# Altium schematic symbol library vga.SchLib: 197 symbols (part 2 of 3)

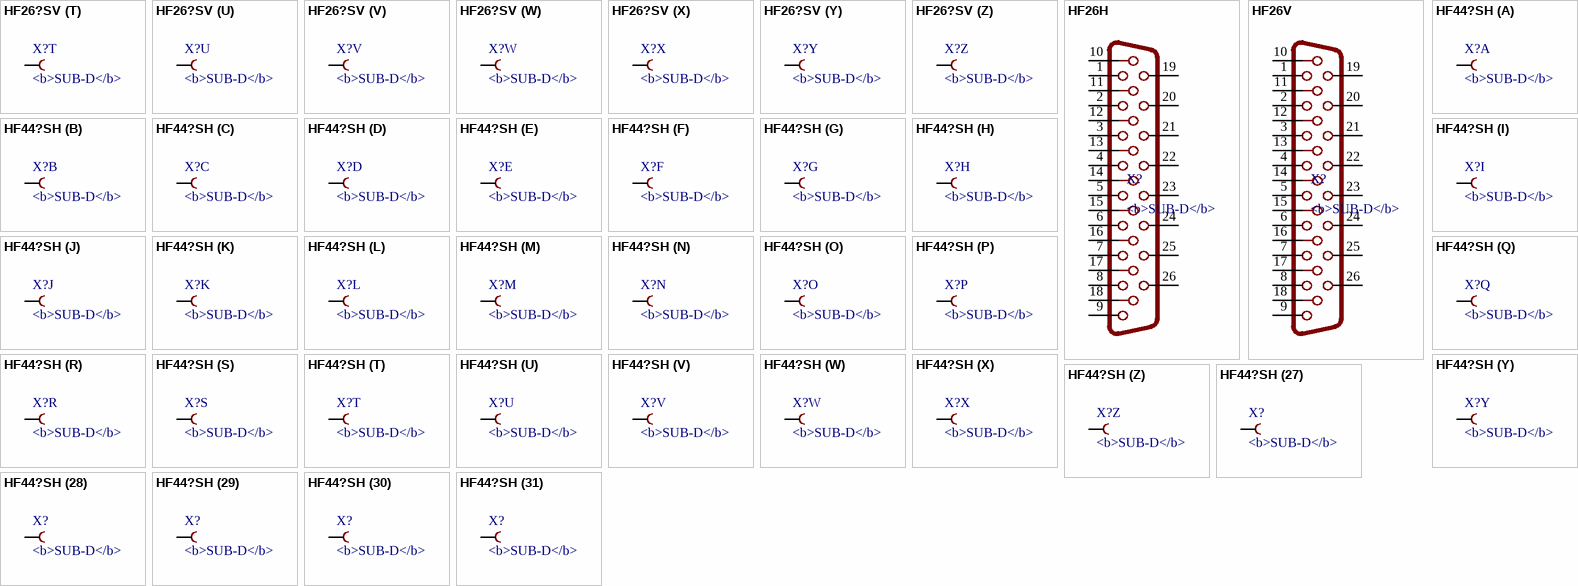
[diagram p23: symbols HF26?SV to HF44?SH]

## HF26?SV
designator X?, comment <b>SUB-D</b>
OC_FARNELL: unknown; OC_NEWARK: unknown
footprint HDF26V
part A pins: 1 F
part B pins: 2 F
part C pins: 3 F
part D pins: 4 F
part E pins: 5 F
part F pins: 6 F
part G pins: 7 F
part H pins: 8 F
part I pins: 9 F
part J pins: 10 F
part K pins: 11 F
part L pins: 12 F
part M pins: 13 F
part N pins: 14 F
part O pins: 15 F
part P pins: 16 F
part Q pins: 17 F
part R pins: 18 F
part S pins: 19 F
part T pins: 20 F
part U pins: 21 F
part V pins: 22 F
part W pins: 23 F
part X pins: 24 F
part Y pins: 25 F
part Z pins: 26 F

## HF26H
designator X?, comment <b>SUB-D</b>
OC_FARNELL: unknown; OC_NEWARK: unknown
footprint HDF26H
pins: 1, 2, 3, 4, 5, 6, 7, 8, 9, 10, 11, 12, 13, 14, 15, 16, 17, 18, 19, 20, 21, 22, 23, 24, 25, 26

## HF26V
designator X?, comment <b>SUB-D</b>
OC_FARNELL: unknown; OC_NEWARK: unknown
footprint HDF26V
pins: 1, 2, 3, 4, 5, 6, 7, 8, 9, 10, 11, 12, 13, 14, 15, 16, 17, 18, 19, 20, 21, 22, 23, 24, 25, 26

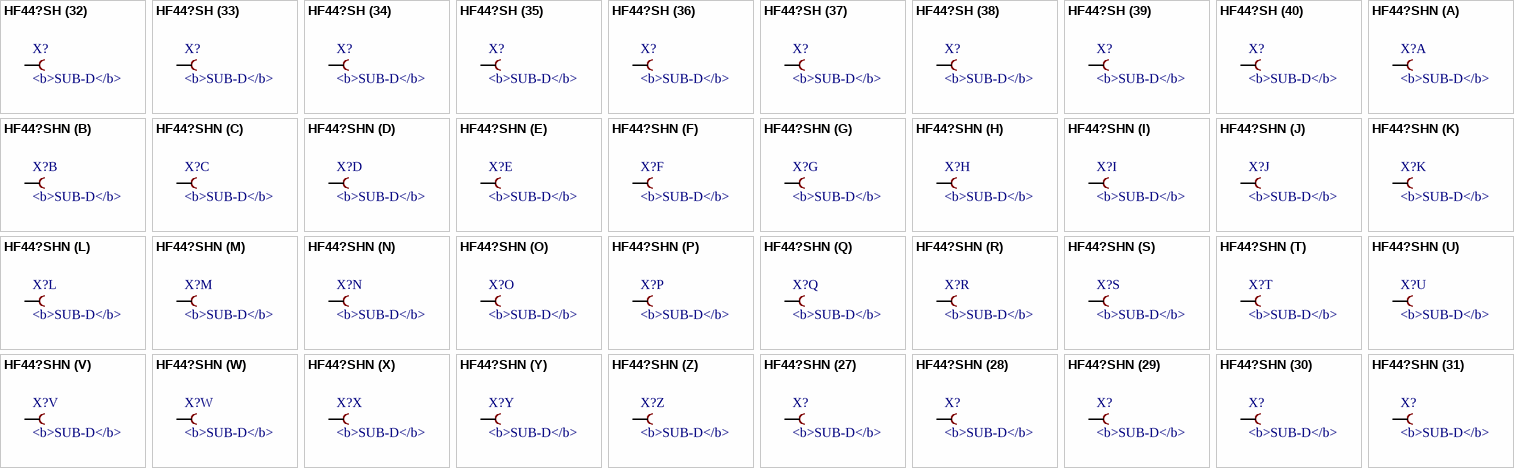
[diagram p24: symbols HF44?SH to HF44?SHN]

## HF44?SH
designator X?, comment <b>SUB-D</b>
OC_FARNELL: unknown; OC_NEWARK: unknown
footprint HDF44H
part A pins: 1 F
part B pins: 2 F
part C pins: 3 F
part D pins: 4 F
part E pins: 5 F
part F pins: 6 F
part G pins: 7 F
part H pins: 8 F
part I pins: 9 F
part J pins: 10 F
part K pins: 11 F
part L pins: 12 F
part M pins: 13 F
part N pins: 14 F
part O pins: 15 F
part P pins: 16 F
part Q pins: 17 F
part R pins: 18 F
part S pins: 19 F
part T pins: 20 F
part U pins: 21 F
part V pins: 22 F
part W pins: 23 F
part X pins: 24 F
part Y pins: 25 F
part Z pins: 26 F
part 27 pins: 27 F
part 28 pins: 28 F
part 29 pins: 29 F
part 30 pins: 30 F
part 31 pins: 31 F
part 32 pins: 32 F
part 33 pins: 33 F
part 34 pins: 34 F
part 35 pins: 35 F
part 36 pins: 36 F
part 37 pins: 37 F
part 38 pins: 38 F
part 39 pins: 39 F
part 40 pins: 40 F
part 41 pins: 41 F
part 42 pins: 42 F
part 43 pins: 43 F
part 44 pins: 44 F

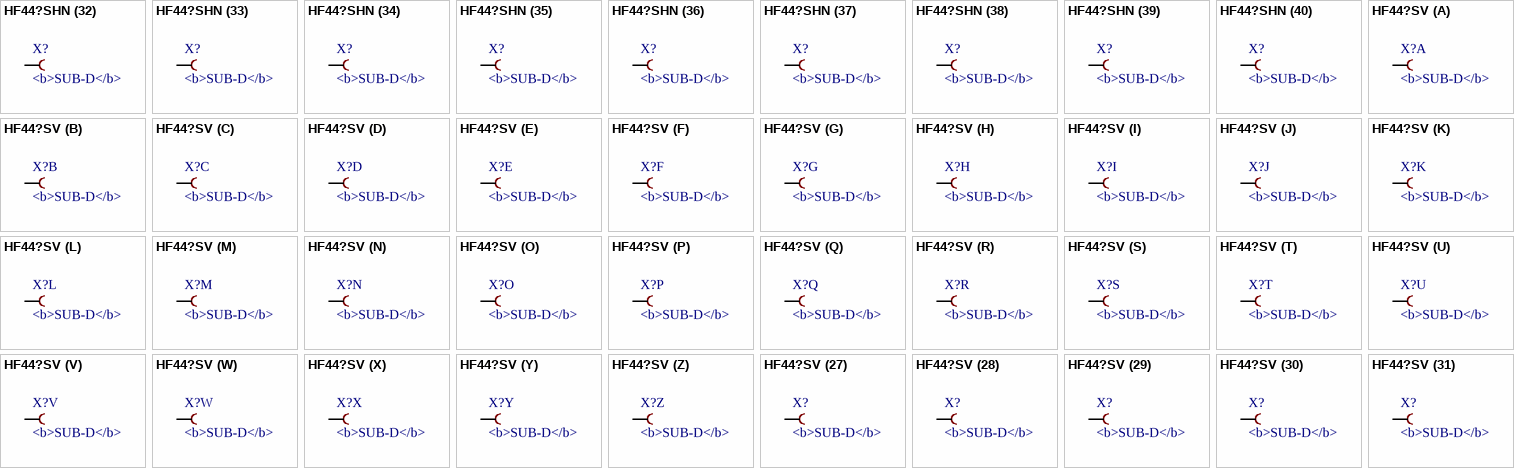
[diagram p25: symbols HF44?SHN to HF44?SV]

## HF44?SHN
designator X?, comment <b>SUB-D</b>
OC_FARNELL: unknown; OC_NEWARK: unknown
footprint HDF44HN
part A pins: 1 F
part B pins: 2 F
part C pins: 3 F
part D pins: 4 F
part E pins: 5 F
part F pins: 6 F
part G pins: 7 F
part H pins: 8 F
part I pins: 9 F
part J pins: 10 F
part K pins: 11 F
part L pins: 12 F
part M pins: 13 F
part N pins: 14 F
part O pins: 15 F
part P pins: 16 F
part Q pins: 17 F
part R pins: 18 F
part S pins: 19 F
part T pins: 20 F
part U pins: 21 F
part V pins: 22 F
part W pins: 23 F
part X pins: 24 F
part Y pins: 25 F
part Z pins: 26 F
part 27 pins: 27 F
part 28 pins: 28 F
part 29 pins: 29 F
part 30 pins: 30 F
part 31 pins: 31 F
part 32 pins: 32 F
part 33 pins: 33 F
part 34 pins: 34 F
part 35 pins: 35 F
part 36 pins: 36 F
part 37 pins: 37 F
part 38 pins: 38 F
part 39 pins: 39 F
part 40 pins: 40 F
part 41 pins: 41 F
part 42 pins: 42 F
part 43 pins: 43 F
part 44 pins: 44 F

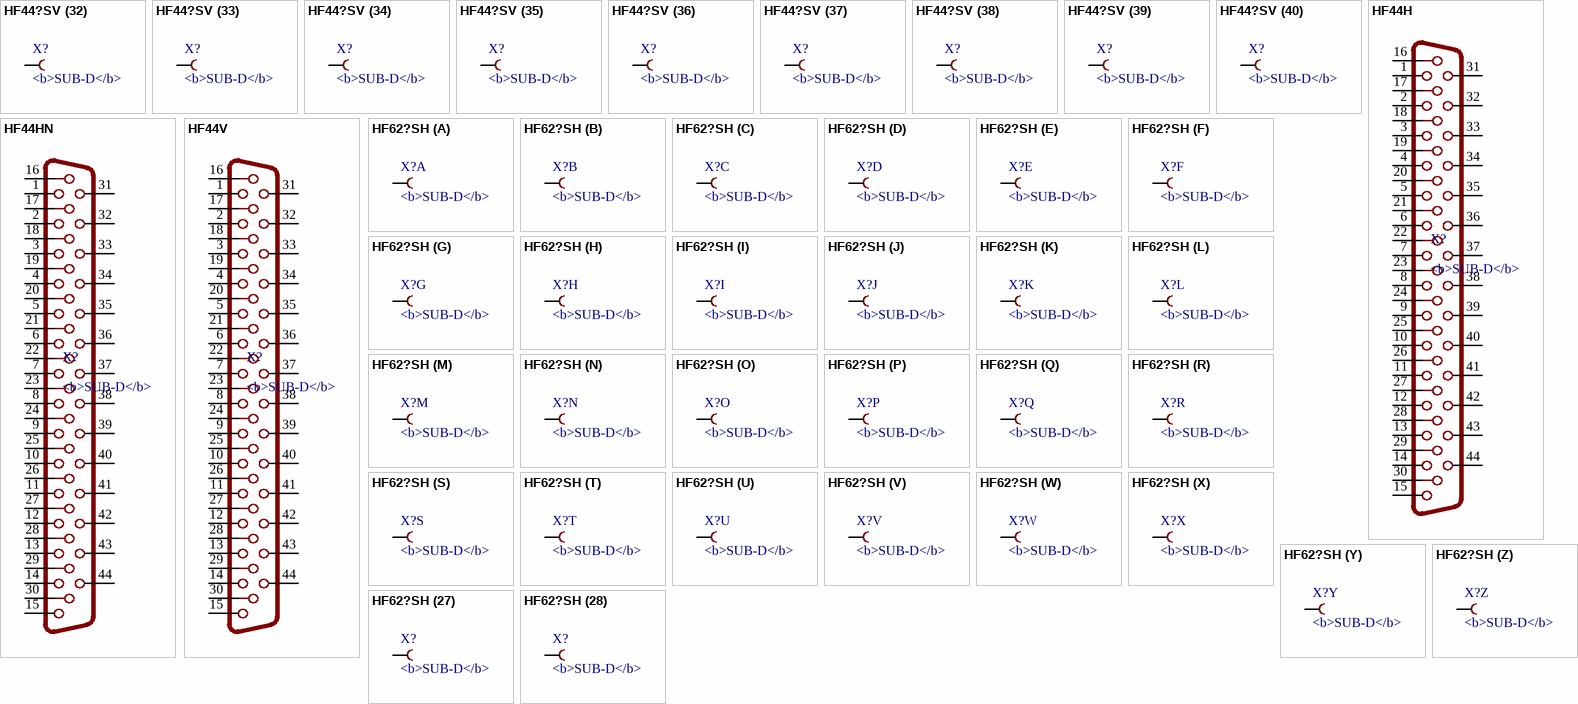
[diagram p26: symbols HF44?SV to HF62?SH]

## HF44?SV
designator X?, comment <b>SUB-D</b>
OC_FARNELL: unknown; OC_NEWARK: unknown
footprint HDF44V
part A pins: 1 F
part B pins: 2 F
part C pins: 3 F
part D pins: 4 F
part E pins: 5 F
part F pins: 6 F
part G pins: 7 F
part H pins: 8 F
part I pins: 9 F
part J pins: 10 F
part K pins: 11 F
part L pins: 12 F
part M pins: 13 F
part N pins: 14 F
part O pins: 15 F
part P pins: 16 F
part Q pins: 17 F
part R pins: 18 F
part S pins: 19 F
part T pins: 20 F
part U pins: 21 F
part V pins: 22 F
part W pins: 23 F
part X pins: 24 F
part Y pins: 25 F
part Z pins: 26 F
part 27 pins: 27 F
part 28 pins: 28 F
part 29 pins: 29 F
part 30 pins: 30 F
part 31 pins: 31 F
part 32 pins: 32 F
part 33 pins: 33 F
part 34 pins: 34 F
part 35 pins: 35 F
part 36 pins: 36 F
part 37 pins: 37 F
part 38 pins: 38 F
part 39 pins: 39 F
part 40 pins: 40 F
part 41 pins: 41 F
part 42 pins: 42 F
part 43 pins: 43 F
part 44 pins: 44 F

## HF44H
designator X?, comment <b>SUB-D</b>
OC_FARNELL: unknown; OC_NEWARK: unknown
footprint HDF44H
pins: 1, 2, 3, 4, 5, 6, 7, 8, 9, 10, 11, 12, 13, 14, 15, 16, 17, 18, 19, 20, 21, 22, 23, 24, 25, 26, 27, 28, 29, 30, 31, 32, 33, 34, 35, 36, 37, 38, 39, 40, 41, 42, 43, 44

## HF44HN
designator X?, comment <b>SUB-D</b>
OC_FARNELL: unknown; OC_NEWARK: unknown
footprint HDF44HN
pins: 1, 2, 3, 4, 5, 6, 7, 8, 9, 10, 11, 12, 13, 14, 15, 16, 17, 18, 19, 20, 21, 22, 23, 24, 25, 26, 27, 28, 29, 30, 31, 32, 33, 34, 35, 36, 37, 38, 39, 40, 41, 42, 43, 44

## HF44V
designator X?, comment <b>SUB-D</b>
OC_FARNELL: unknown; OC_NEWARK: unknown
footprint HDF44V
pins: 1, 2, 3, 4, 5, 6, 7, 8, 9, 10, 11, 12, 13, 14, 15, 16, 17, 18, 19, 20, 21, 22, 23, 24, 25, 26, 27, 28, 29, 30, 31, 32, 33, 34, 35, 36, 37, 38, 39, 40, 41, 42, 43, 44

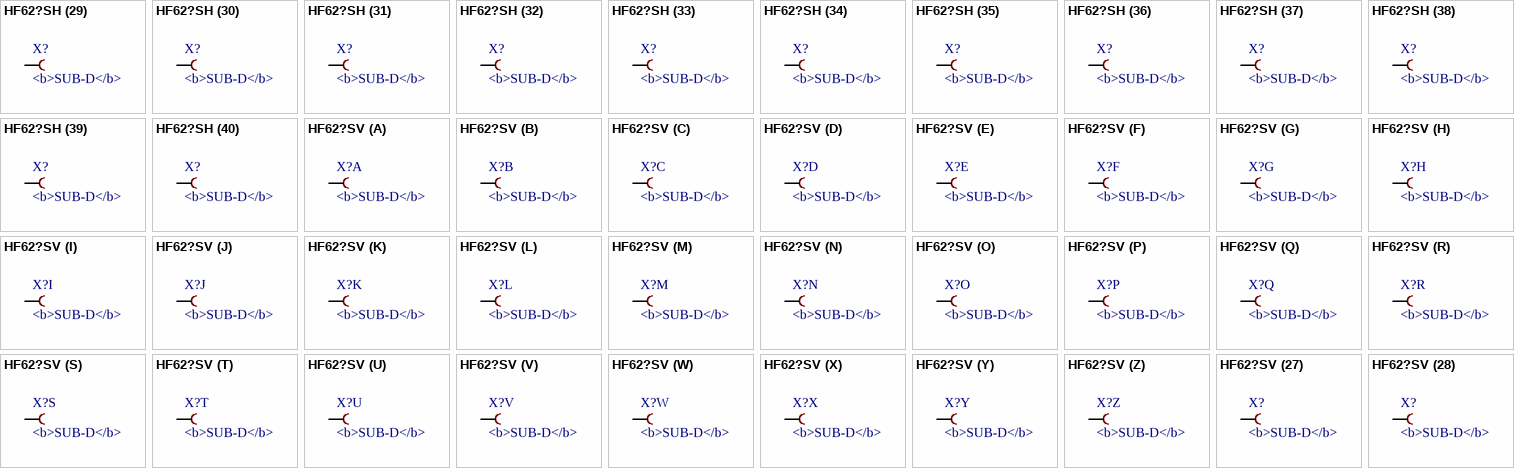
[diagram p27: symbols HF62?SH to HF62?SV]

## HF62?SH
designator X?, comment <b>SUB-D</b>
OC_FARNELL: unknown; OC_NEWARK: unknown
footprint HDF62H
part A pins: 1 F
part B pins: 2 F
part C pins: 3 F
part D pins: 4 F
part E pins: 5 F
part F pins: 6 F
part G pins: 7 F
part H pins: 8 F
part I pins: 9 F
part J pins: 10 F
part K pins: 11 F
part L pins: 12 F
part M pins: 13 F
part N pins: 14 F
part O pins: 15 F
part P pins: 16 F
part Q pins: 17 F
part R pins: 18 F
part S pins: 19 F
part T pins: 20 F
part U pins: 21 F
part V pins: 22 F
part W pins: 23 F
part X pins: 24 F
part Y pins: 25 F
part Z pins: 26 F
part 27 pins: 27 F
part 28 pins: 28 F
part 29 pins: 29 F
part 30 pins: 30 F
part 31 pins: 31 F
part 32 pins: 32 F
part 33 pins: 33 F
part 34 pins: 34 F
part 35 pins: 35 F
part 36 pins: 36 F
part 37 pins: 37 F
part 38 pins: 38 F
part 39 pins: 39 F
part 40 pins: 40 F
part 41 pins: 41 F
part 42 pins: 42 F
part 43 pins: 43 F
part 44 pins: 44 F
part 45 pins: 45 F
part 46 pins: 46 F
part 47 pins: 47 F
part 48 pins: 48 F
part 49 pins: 49 F
part 50 pins: 50 F
part 51 pins: 51 F
part 52 pins: 52 F
part 53 pins: 53 F
part 54 pins: 54 F
part 55 pins: 55 F
part 56 pins: 56 F
part 57 pins: 57 F
part 58 pins: 58 F
part 59 pins: 59 F
part 60 pins: 60 F
part 61 pins: 61 F
part 62 pins: 62 F

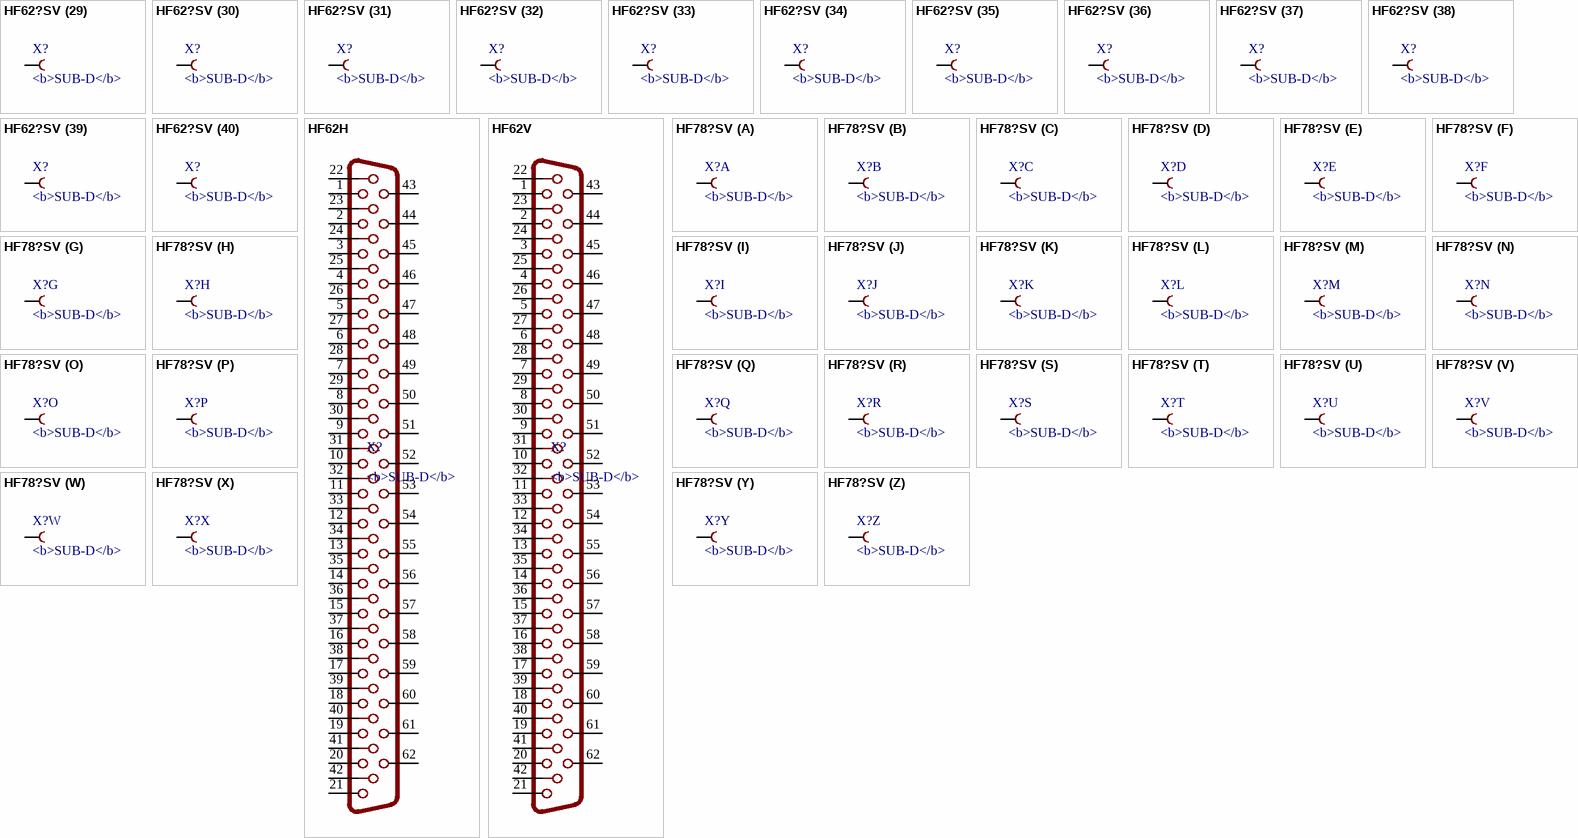
[diagram p28: symbols HF62?SV to HF78?SV]

## HF62?SV
designator X?, comment <b>SUB-D</b>
OC_FARNELL: unknown; OC_NEWARK: unknown
footprint HDM62V
part A pins: 1 F
part B pins: 2 F
part C pins: 3 F
part D pins: 4 F
part E pins: 5 F
part F pins: 6 F
part G pins: 7 F
part H pins: 8 F
part I pins: 9 F
part J pins: 10 F
part K pins: 11 F
part L pins: 12 F
part M pins: 13 F
part N pins: 14 F
part O pins: 15 F
part P pins: 16 F
part Q pins: 17 F
part R pins: 18 F
part S pins: 19 F
part T pins: 20 F
part U pins: 21 F
part V pins: 22 F
part W pins: 23 F
part X pins: 24 F
part Y pins: 25 F
part Z pins: 26 F
part 27 pins: 27 F
part 28 pins: 28 F
part 29 pins: 29 F
part 30 pins: 30 F
part 31 pins: 31 F
part 32 pins: 32 F
part 33 pins: 33 F
part 34 pins: 34 F
part 35 pins: 35 F
part 36 pins: 36 F
part 37 pins: 37 F
part 38 pins: 38 F
part 39 pins: 39 F
part 40 pins: 40 F
part 41 pins: 41 F
part 42 pins: 42 F
part 43 pins: 43 F
part 44 pins: 44 F
part 45 pins: 45 F
part 46 pins: 46 F
part 47 pins: 47 F
part 48 pins: 48 F
part 49 pins: 49 F
part 50 pins: 50 F
part 51 pins: 51 F
part 52 pins: 52 F
part 53 pins: 53 F
part 54 pins: 54 F
part 55 pins: 55 F
part 56 pins: 56 F
part 57 pins: 57 F
part 58 pins: 58 F
part 59 pins: 59 F
part 60 pins: 60 F
part 61 pins: 61 F
part 62 pins: 62 F

## HF62H
designator X?, comment <b>SUB-D</b>
OC_FARNELL: unknown; OC_NEWARK: unknown
footprint HDF62H
pins: 1, 2, 3, 4, 5, 6, 7, 8, 9, 10, 11, 12, 13, 14, 15, 16, 17, 18, 19, 20, 21, 22, 23, 24, 25, 26, 27, 28, 29, 30, 31, 32, 33, 34, 35, 36, 37, 38, 39, 40, 41, 42, 43, 44, 45, 46, 47, 48, 49, 50, 51, 52, 53, 54, 55, 56, 57, 58, 59, 60, 61, 62

## HF62V
designator X?, comment <b>SUB-D</b>
OC_FARNELL: unknown; OC_NEWARK: unknown
footprint HDM62V
pins: 1, 2, 3, 4, 5, 6, 7, 8, 9, 10, 11, 12, 13, 14, 15, 16, 17, 18, 19, 20, 21, 22, 23, 24, 25, 26, 27, 28, 29, 30, 31, 32, 33, 34, 35, 36, 37, 38, 39, 40, 41, 42, 43, 44, 45, 46, 47, 48, 49, 50, 51, 52, 53, 54, 55, 56, 57, 58, 59, 60, 61, 62

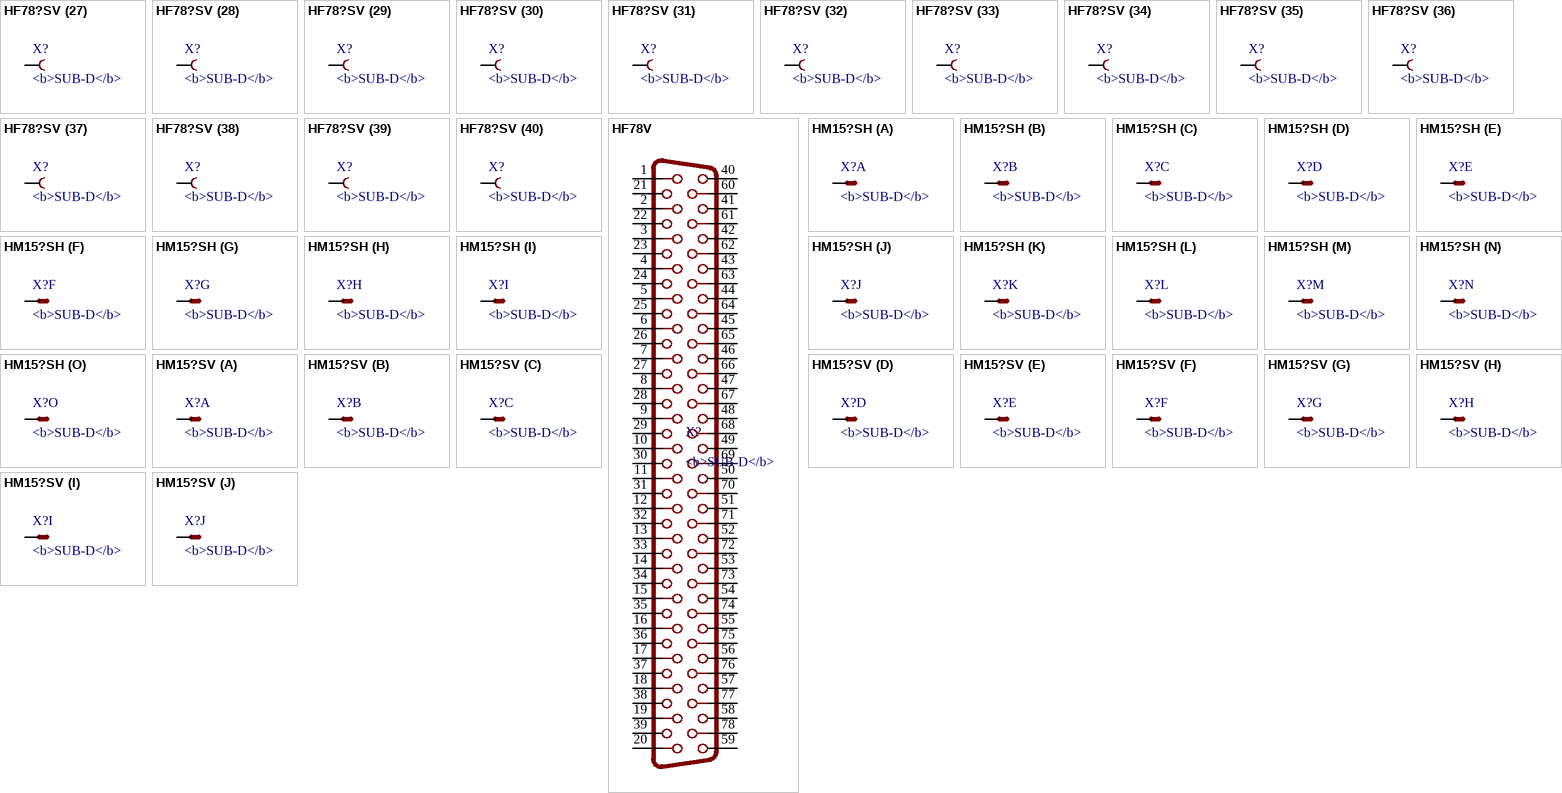
[diagram p29: symbols HF78?SV to HM15?SV]

## HF78?SV
designator X?, comment <b>SUB-D</b>
OC_FARNELL: unknown; OC_NEWARK: unknown
footprint HDF78V
part A pins: 1 F
part B pins: 2 F
part C pins: 3 F
part D pins: 4 F
part E pins: 5 F
part F pins: 6 F
part G pins: 7 F
part H pins: 8 F
part I pins: 9 F
part J pins: 10 F
part K pins: 11 F
part L pins: 12 F
part M pins: 13 F
part N pins: 14 F
part O pins: 15 F
part P pins: 16 F
part Q pins: 17 F
part R pins: 18 F
part S pins: 19 F
part T pins: 20 F
part U pins: 21 F
part V pins: 22 F
part W pins: 23 F
part X pins: 24 F
part Y pins: 25 F
part Z pins: 26 F
part 27 pins: 27 F
part 28 pins: 28 F
part 29 pins: 29 F
part 30 pins: 30 F
part 31 pins: 31 F
part 32 pins: 32 F
part 33 pins: 33 F
part 34 pins: 34 F
part 35 pins: 35 F
part 36 pins: 36 F
part 37 pins: 37 F
part 38 pins: 38 F
part 39 pins: 39 F
part 40 pins: 40 F
part 41 pins: 41 F
part 42 pins: 42 F
part 43 pins: 43 F
part 44 pins: 44 F
part 45 pins: 45 F
part 46 pins: 46 F
part 47 pins: 47 F
part 48 pins: 48 F
part 49 pins: 49 F
part 50 pins: 50 F
part 51 pins: 51 F
part 52 pins: 52 F
part 53 pins: 53 F
part 54 pins: 54 F
part 55 pins: 55 F
part 56 pins: 56 F
part 57 pins: 57 F
part 58 pins: 58 F
part 59 pins: 59 F
part 60 pins: 60 F
part 61 pins: 61 F
part 62 pins: 62 F
part 63 pins: 63 F
part 64 pins: 64 F
part 65 pins: 65 F
part 66 pins: 66 F
part 67 pins: 67 F
part 68 pins: 68 F
part 69 pins: 69 F
part 70 pins: 70 F
part 71 pins: 71 F
part 72 pins: 72 F
part 73 pins: 73 F
part 74 pins: 74 F
part 75 pins: 75 F
part 76 pins: 76 F
part 77 pins: 77 F
part 78 pins: 78 F

## HF78V
designator X?, comment <b>SUB-D</b>
OC_FARNELL: unknown; OC_NEWARK: unknown
footprint HDF78V
pins: 1, 2, 3, 4, 5, 6, 7, 8, 9, 10, 11, 12, 13, 14, 15, 16, 17, 18, 19, 20, 21, 22, 23, 24, 25, 26, 27, 28, 29, 30, 31, 32, 33, 34, 35, 36, 37, 38, 39, 40, 41, 42, 43, 44, 45, 46, 47, 48, 49, 50, 51, 52, 53, 54, 55, 56, 57, 58, 59, 60, 61, 62, 63, 64, 65, 66, 67, 68, 69, 70, 71, 72, 73, 74, 75, 76, 77, 78

## HM15?SH
designator X?, comment <b>SUB-D</b>
OC_FARNELL: unknown; OC_NEWARK: unknown
footprint HDM15H
part A pins: 2 M
part B pins: 3 M
part C pins: 4 M
part D pins: 5 M
part E pins: 6 M
part F pins: 7 M
part G pins: 8 M
part H pins: 9 M
part I pins: 10 M
part J pins: 11 M
part K pins: 12 M
part L pins: 13 M
part M pins: 14 M
part N pins: 15 M
part O pins: 1 M

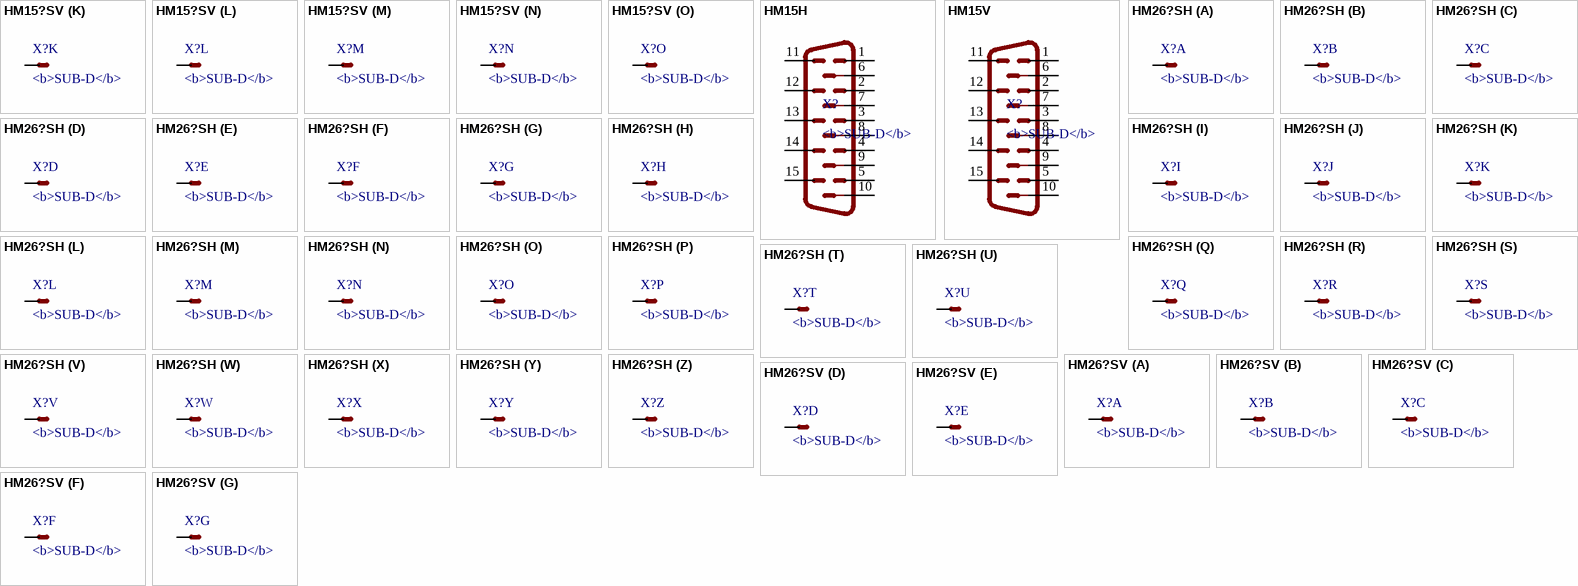
[diagram p30: symbols HM15?SV to HM26?SV]

## HM15?SV
designator X?, comment <b>SUB-D</b>
OC_FARNELL: unknown; OC_NEWARK: unknown
footprint HDM15V
part A pins: 2 M
part B pins: 3 M
part C pins: 4 M
part D pins: 5 M
part E pins: 6 M
part F pins: 7 M
part G pins: 8 M
part H pins: 9 M
part I pins: 10 M
part J pins: 11 M
part K pins: 12 M
part L pins: 13 M
part M pins: 14 M
part N pins: 15 M
part O pins: 1 M

## HM15H
designator X?, comment <b>SUB-D</b>
OC_FARNELL: unknown; OC_NEWARK: unknown
footprint HDM15H
pins: 1, 2, 3, 4, 5, 6, 7, 8, 9, 10, 11, 12, 13, 14, 15

## HM15V
designator X?, comment <b>SUB-D</b>
OC_FARNELL: unknown; OC_NEWARK: unknown
footprint HDM15V
pins: 1, 2, 3, 4, 5, 6, 7, 8, 9, 10, 11, 12, 13, 14, 15

## HM26?SH
designator X?, comment <b>SUB-D</b>
OC_FARNELL: unknown; OC_NEWARK: unknown
footprint HDM26H
part A pins: 2 M
part B pins: 3 M
part C pins: 4 M
part D pins: 5 M
part E pins: 6 M
part F pins: 7 M
part G pins: 8 M
part H pins: 9 M
part I pins: 10 M
part J pins: 11 M
part K pins: 12 M
part L pins: 13 M
part M pins: 14 M
part N pins: 15 M
part O pins: 16 M
part P pins: 17 M
part Q pins: 18 M
part R pins: 19 M
part S pins: 20 M
part T pins: 21 M
part U pins: 22 M
part V pins: 23 M
part W pins: 24 M
part X pins: 25 M
part Y pins: 26 M
part Z pins: 1 M

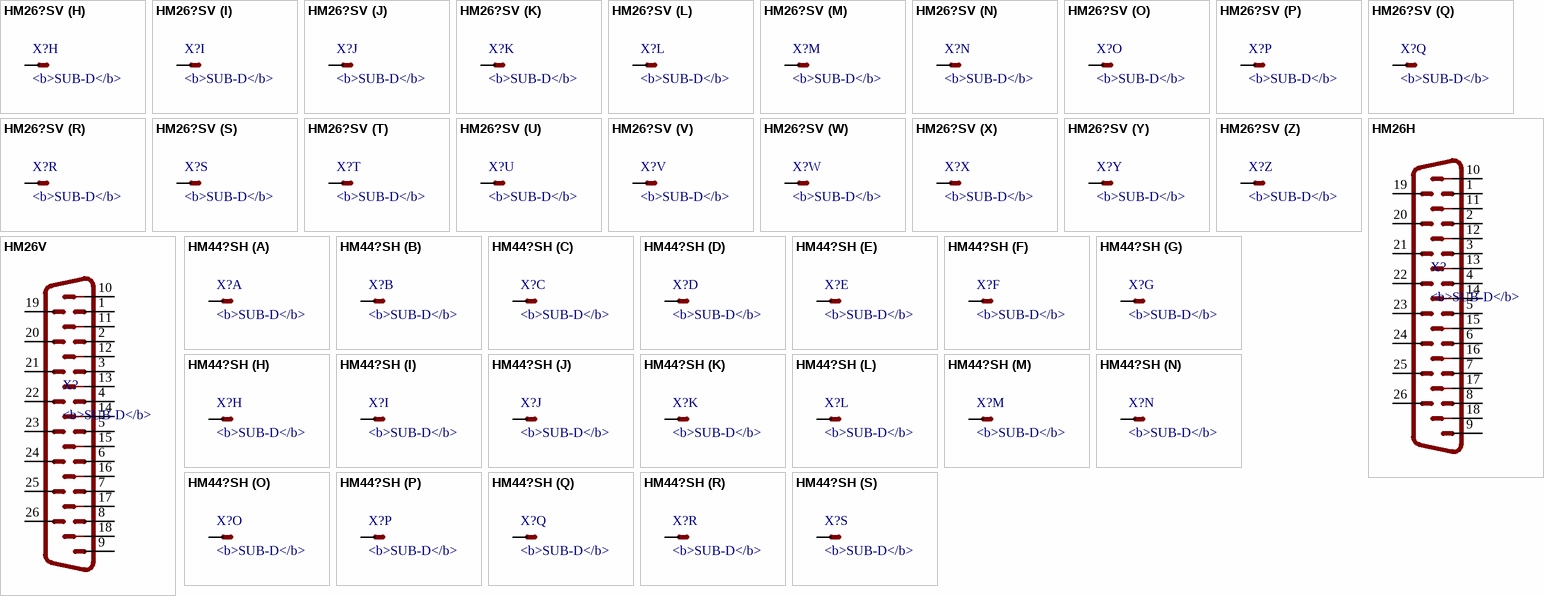
[diagram p31: symbols HM26?SV to HM44?SH]

## HM26?SV
designator X?, comment <b>SUB-D</b>
OC_FARNELL: unknown; OC_NEWARK: unknown
footprint HDM26V
part A pins: 2 M
part B pins: 3 M
part C pins: 4 M
part D pins: 5 M
part E pins: 6 M
part F pins: 7 M
part G pins: 8 M
part H pins: 9 M
part I pins: 10 M
part J pins: 11 M
part K pins: 12 M
part L pins: 13 M
part M pins: 14 M
part N pins: 15 M
part O pins: 16 M
part P pins: 17 M
part Q pins: 18 M
part R pins: 19 M
part S pins: 20 M
part T pins: 21 M
part U pins: 22 M
part V pins: 23 M
part W pins: 24 M
part X pins: 25 M
part Y pins: 26 M
part Z pins: 1 M

## HM26H
designator X?, comment <b>SUB-D</b>
OC_FARNELL: unknown; OC_NEWARK: unknown
footprint HDM26H
pins: 1, 2, 3, 4, 5, 6, 7, 8, 9, 10, 11, 12, 13, 14, 15, 16, 17, 18, 19, 20, 21, 22, 23, 24, 25, 26

## HM26V
designator X?, comment <b>SUB-D</b>
OC_FARNELL: unknown; OC_NEWARK: unknown
footprint HDM26V
pins: 1, 2, 3, 4, 5, 6, 7, 8, 9, 10, 11, 12, 13, 14, 15, 16, 17, 18, 19, 20, 21, 22, 23, 24, 25, 26

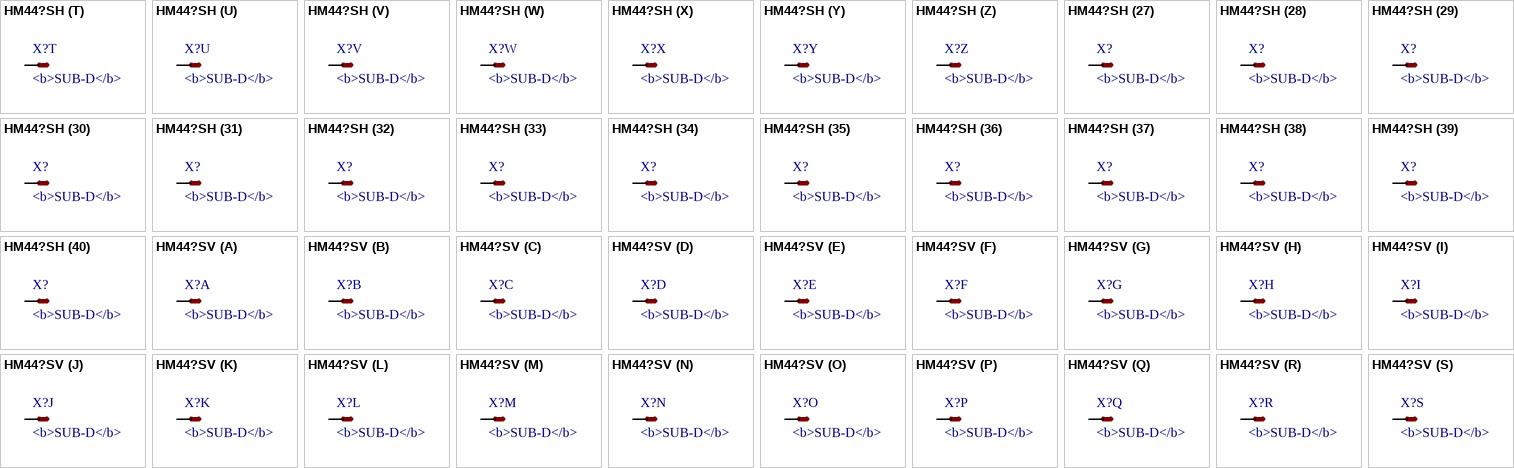
[diagram p32: symbols HM44?SH to HM44?SV]

## HM44?SH
designator X?, comment <b>SUB-D</b>
OC_FARNELL: unknown; OC_NEWARK: unknown
footprint HDM44H
part A pins: 1 M
part B pins: 2 M
part C pins: 3 M
part D pins: 4 M
part E pins: 5 M
part F pins: 6 M
part G pins: 7 M
part H pins: 8 M
part I pins: 9 M
part J pins: 10 M
part K pins: 11 M
part L pins: 12 M
part M pins: 13 M
part N pins: 14 M
part O pins: 15 M
part P pins: 16 M
part Q pins: 17 M
part R pins: 18 M
part S pins: 19 M
part T pins: 20 M
part U pins: 21 M
part V pins: 22 M
part W pins: 23 M
part X pins: 24 M
part Y pins: 25 M
part Z pins: 26 M
part 27 pins: 27 M
part 28 pins: 28 M
part 29 pins: 29 M
part 30 pins: 30 M
part 31 pins: 31 M
part 32 pins: 32 M
part 33 pins: 33 M
part 34 pins: 34 M
part 35 pins: 35 M
part 36 pins: 36 M
part 37 pins: 37 M
part 38 pins: 38 M
part 39 pins: 39 M
part 40 pins: 40 M
part 41 pins: 41 M
part 42 pins: 42 M
part 43 pins: 43 M
part 44 pins: 44 M

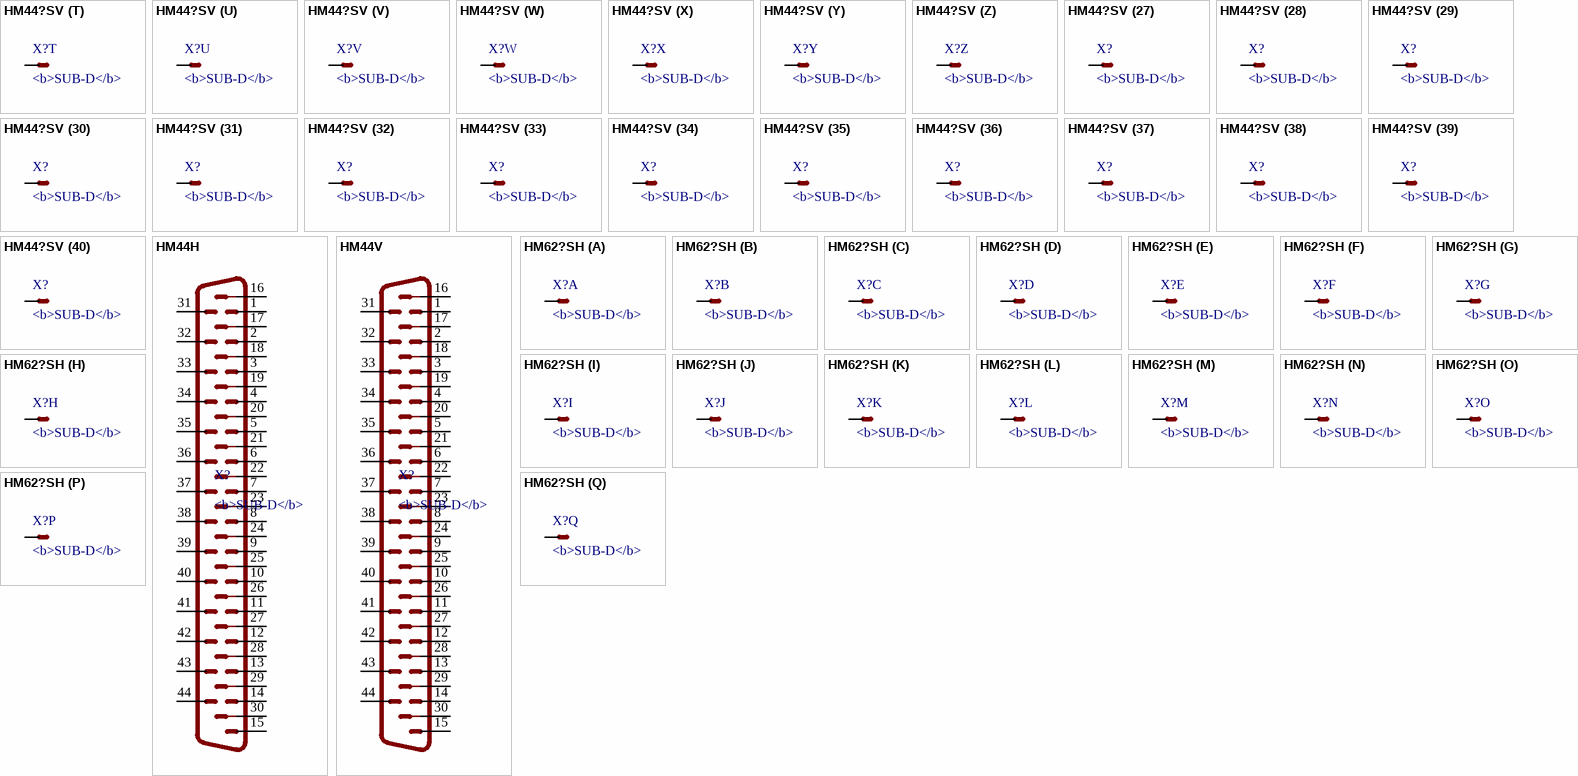
[diagram p33: symbols HM44?SV to HM62?SH]

## HM44?SV
designator X?, comment <b>SUB-D</b>
OC_FARNELL: unknown; OC_NEWARK: unknown
footprint HDM44V
part A pins: 1 M
part B pins: 2 M
part C pins: 3 M
part D pins: 4 M
part E pins: 5 M
part F pins: 6 M
part G pins: 7 M
part H pins: 8 M
part I pins: 9 M
part J pins: 10 M
part K pins: 11 M
part L pins: 12 M
part M pins: 13 M
part N pins: 14 M
part O pins: 15 M
part P pins: 16 M
part Q pins: 17 M
part R pins: 18 M
part S pins: 19 M
part T pins: 20 M
part U pins: 21 M
part V pins: 22 M
part W pins: 23 M
part X pins: 24 M
part Y pins: 25 M
part Z pins: 26 M
part 27 pins: 27 M
part 28 pins: 28 M
part 29 pins: 29 M
part 30 pins: 30 M
part 31 pins: 31 M
part 32 pins: 32 M
part 33 pins: 33 M
part 34 pins: 34 M
part 35 pins: 35 M
part 36 pins: 36 M
part 37 pins: 37 M
part 38 pins: 38 M
part 39 pins: 39 M
part 40 pins: 40 M
part 41 pins: 41 M
part 42 pins: 42 M
part 43 pins: 43 M
part 44 pins: 44 M

## HM44H
designator X?, comment <b>SUB-D</b>
OC_FARNELL: unknown; OC_NEWARK: unknown
footprint HDM44H
pins: 1, 2, 3, 4, 5, 6, 7, 8, 9, 10, 11, 12, 13, 14, 15, 16, 17, 18, 19, 20, 21, 22, 23, 24, 25, 26, 27, 28, 29, 30, 31, 32, 33, 34, 35, 36, 37, 38, 39, 40, 41, 42, 43, 44

## HM44V
designator X?, comment <b>SUB-D</b>
OC_FARNELL: unknown; OC_NEWARK: unknown
footprint HDM44V
pins: 1, 2, 3, 4, 5, 6, 7, 8, 9, 10, 11, 12, 13, 14, 15, 16, 17, 18, 19, 20, 21, 22, 23, 24, 25, 26, 27, 28, 29, 30, 31, 32, 33, 34, 35, 36, 37, 38, 39, 40, 41, 42, 43, 44

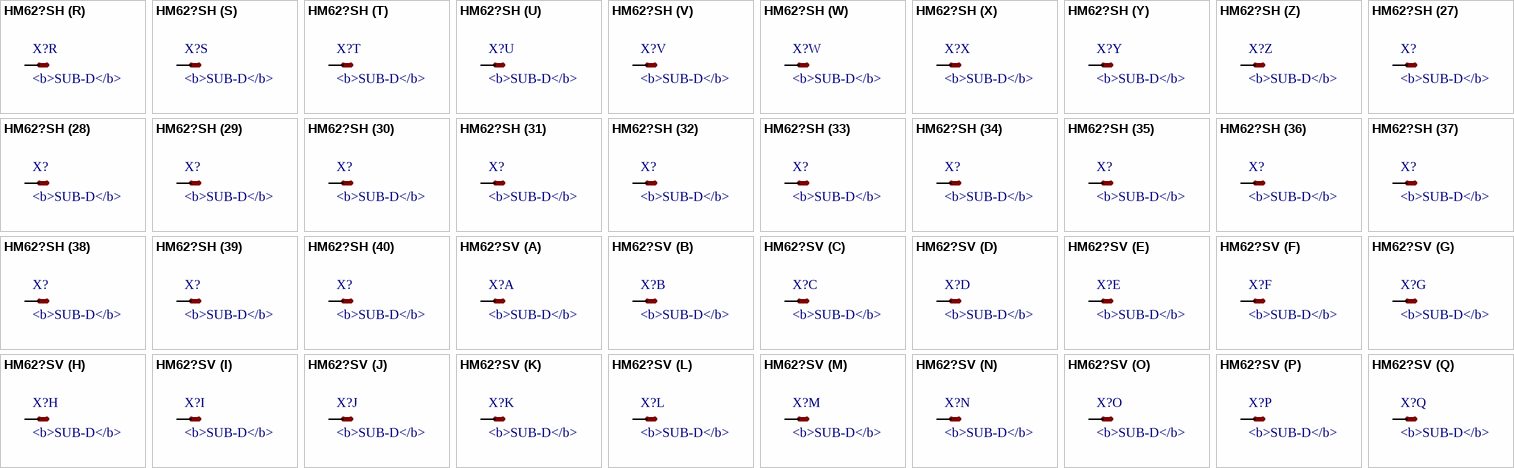
[diagram p34: symbols HM62?SH to HM62?SV]

## HM62?SH
designator X?, comment <b>SUB-D</b>
OC_FARNELL: unknown; OC_NEWARK: unknown
footprint HDM62H
part A pins: 1 M
part B pins: 2 M
part C pins: 3 M
part D pins: 4 M
part E pins: 5 M
part F pins: 6 M
part G pins: 7 M
part H pins: 8 M
part I pins: 9 M
part J pins: 10 M
part K pins: 11 M
part L pins: 12 M
part M pins: 13 M
part N pins: 14 M
part O pins: 15 M
part P pins: 16 M
part Q pins: 17 M
part R pins: 18 M
part S pins: 19 M
part T pins: 20 M
part U pins: 21 M
part V pins: 22 M
part W pins: 23 M
part X pins: 24 M
part Y pins: 25 M
part Z pins: 26 M
part 27 pins: 27 M
part 28 pins: 28 M
part 29 pins: 29 M
part 30 pins: 30 M
part 31 pins: 31 M
part 32 pins: 32 M
part 33 pins: 33 M
part 34 pins: 34 M
part 35 pins: 35 M
part 36 pins: 36 M
part 37 pins: 37 M
part 38 pins: 38 M
part 39 pins: 39 M
part 40 pins: 40 M
part 41 pins: 41 M
part 42 pins: 42 M
part 43 pins: 43 M
part 44 pins: 44 M
part 45 pins: 45 M
part 46 pins: 46 M
part 47 pins: 47 M
part 48 pins: 48 M
part 49 pins: 49 M
part 50 pins: 50 M
part 51 pins: 51 M
part 52 pins: 52 M
part 53 pins: 53 M
part 54 pins: 54 M
part 55 pins: 55 M
part 56 pins: 56 M
part 57 pins: 57 M
part 58 pins: 58 M
part 59 pins: 59 M
part 60 pins: 60 M
part 61 pins: 61 M
part 62 pins: 62 M

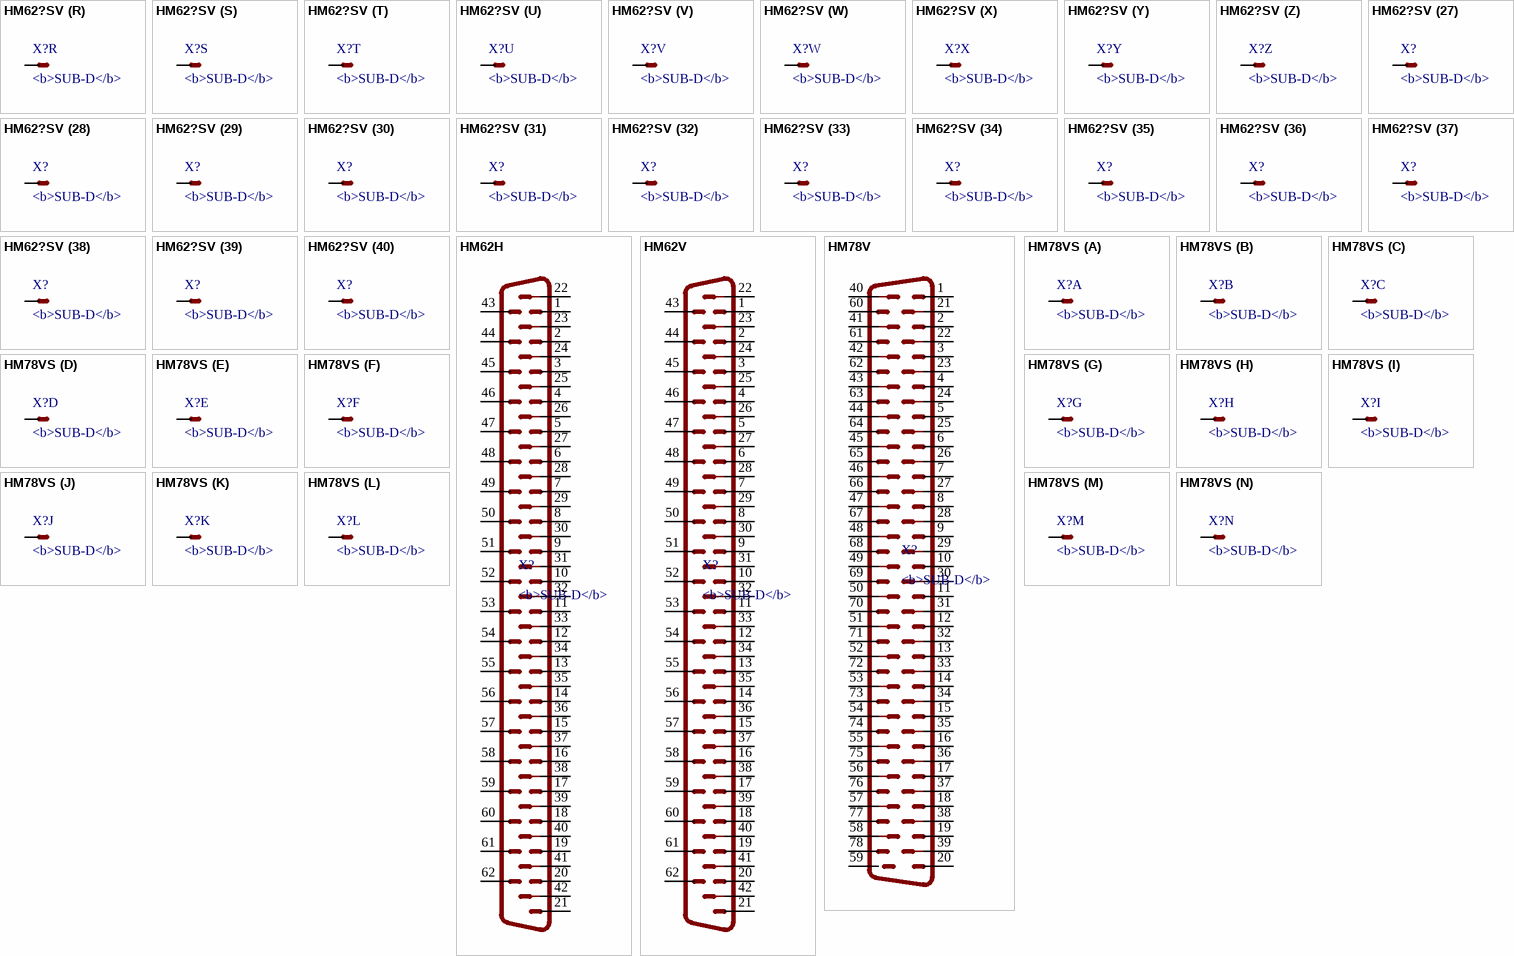
[diagram p35: symbols HM62?SV to HM78VS]

## HM62?SV
designator X?, comment <b>SUB-D</b>
OC_FARNELL: unknown; OC_NEWARK: unknown
footprint HDM62V
part A pins: 1 M
part B pins: 2 M
part C pins: 3 M
part D pins: 4 M
part E pins: 5 M
part F pins: 6 M
part G pins: 7 M
part H pins: 8 M
part I pins: 9 M
part J pins: 10 M
part K pins: 11 M
part L pins: 12 M
part M pins: 13 M
part N pins: 14 M
part O pins: 15 M
part P pins: 16 M
part Q pins: 17 M
part R pins: 18 M
part S pins: 19 M
part T pins: 20 M
part U pins: 21 M
part V pins: 22 M
part W pins: 23 M
part X pins: 24 M
part Y pins: 25 M
part Z pins: 26 M
part 27 pins: 27 M
part 28 pins: 28 M
part 29 pins: 29 M
part 30 pins: 30 M
part 31 pins: 31 M
part 32 pins: 32 M
part 33 pins: 33 M
part 34 pins: 34 M
part 35 pins: 35 M
part 36 pins: 36 M
part 37 pins: 37 M
part 38 pins: 38 M
part 39 pins: 39 M
part 40 pins: 40 M
part 41 pins: 41 M
part 42 pins: 42 M
part 43 pins: 43 M
part 44 pins: 44 M
part 45 pins: 45 M
part 46 pins: 46 M
part 47 pins: 47 M
part 48 pins: 48 M
part 49 pins: 49 M
part 50 pins: 50 M
part 51 pins: 51 M
part 52 pins: 52 M
part 53 pins: 53 M
part 54 pins: 54 M
part 55 pins: 55 M
part 56 pins: 56 M
part 57 pins: 57 M
part 58 pins: 58 M
part 59 pins: 59 M
part 60 pins: 60 M
part 61 pins: 61 M
part 62 pins: 62 M

## HM62H
designator X?, comment <b>SUB-D</b>
OC_FARNELL: unknown; OC_NEWARK: unknown
footprint HDM62H
pins: 1, 2, 3, 4, 5, 6, 7, 8, 9, 10, 11, 12, 13, 14, 15, 16, 17, 18, 19, 20, 21, 22, 23, 24, 25, 26, 27, 28, 29, 30, 31, 32, 33, 34, 35, 36, 37, 38, 39, 40, 41, 42, 43, 44, 45, 46, 47, 48, 49, 50, 51, 52, 53, 54, 55, 56, 57, 58, 59, 60, 61, 62

## HM62V
designator X?, comment <b>SUB-D</b>
OC_FARNELL: unknown; OC_NEWARK: unknown
footprint HDM62V
pins: 1, 2, 3, 4, 5, 6, 7, 8, 9, 10, 11, 12, 13, 14, 15, 16, 17, 18, 19, 20, 21, 22, 23, 24, 25, 26, 27, 28, 29, 30, 31, 32, 33, 34, 35, 36, 37, 38, 39, 40, 41, 42, 43, 44, 45, 46, 47, 48, 49, 50, 51, 52, 53, 54, 55, 56, 57, 58, 59, 60, 61, 62

## HM78V
designator X?, comment <b>SUB-D</b>
OC_FARNELL: unknown; OC_NEWARK: unknown
footprint HDM78V
pins: 1, 2, 3, 4, 5, 6, 7, 8, 9, 10, 11, 12, 13, 14, 15, 16, 17, 18, 19, 20, 21, 22, 23, 24, 25, 26, 27, 28, 29, 30, 31, 32, 33, 34, 35, 36, 37, 38, 39, 40, 41, 42, 43, 44, 45, 46, 47, 48, 49, 50, 51, 52, 53, 54, 55, 56, 57, 58, 59, 60, 61, 62, 63, 64, 65, 66, 67, 68, 69, 70, 71, 72, 73, 74, 75, 76, 77, 78

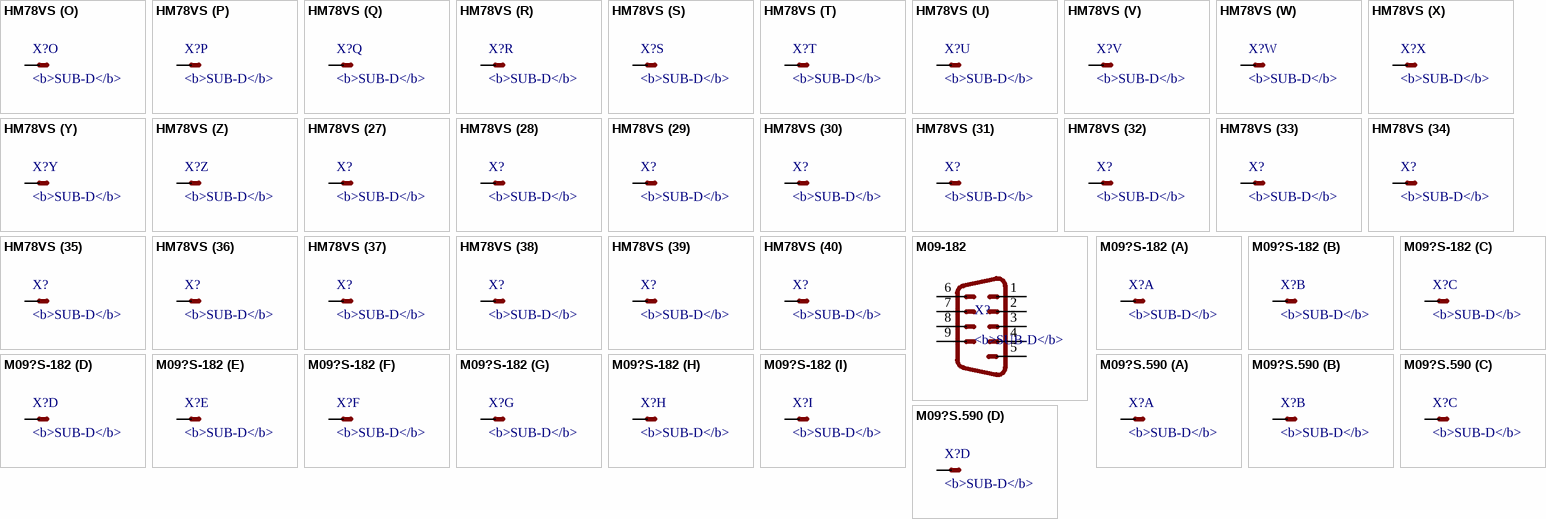
[diagram p36: symbols HM78VS to M09?S.590]

## HM78VS
designator X?, comment <b>SUB-D</b>
OC_FARNELL: unknown; OC_NEWARK: unknown
footprint HDM78V
part A pins: 1 M
part B pins: 2 M
part C pins: 3 M
part D pins: 4 M
part E pins: 5 M
part F pins: 6 M
part G pins: 7 M
part H pins: 8 M
part I pins: 9 M
part J pins: 10 M
part K pins: 11 M
part L pins: 12 M
part M pins: 13 M
part N pins: 14 M
part O pins: 15 M
part P pins: 16 M
part Q pins: 17 M
part R pins: 18 M
part S pins: 19 M
part T pins: 20 M
part U pins: 21 M
part V pins: 22 M
part W pins: 23 M
part X pins: 24 M
part Y pins: 25 M
part Z pins: 26 M
part 27 pins: 27 M
part 28 pins: 28 M
part 29 pins: 29 M
part 30 pins: 30 M
part 31 pins: 31 M
part 32 pins: 32 M
part 33 pins: 33 M
part 34 pins: 34 M
part 35 pins: 35 M
part 36 pins: 36 M
part 37 pins: 37 M
part 38 pins: 38 M
part 39 pins: 39 M
part 40 pins: 40 M
part 41 pins: 41 M
part 42 pins: 42 M
part 43 pins: 43 M
part 44 pins: 44 M
part 45 pins: 45 M
part 46 pins: 46 M
part 47 pins: 47 M
part 48 pins: 48 M
part 49 pins: 49 M
part 50 pins: 50 M
part 51 pins: 51 M
part 52 pins: 52 M
part 53 pins: 53 M
part 54 pins: 54 M
part 55 pins: 55 M
part 56 pins: 56 M
part 57 pins: 57 M
part 58 pins: 58 M
part 59 pins: 59 M
part 60 pins: 60 M
part 61 pins: 61 M
part 62 pins: 62 M
part 63 pins: 63 M
part 64 pins: 64 M
part 65 pins: 65 M
part 66 pins: 66 M
part 67 pins: 67 M
part 68 pins: 68 M
part 69 pins: 69 M
part 70 pins: 70 M
part 71 pins: 71 M
part 72 pins: 72 M
part 73 pins: 73 M
part 74 pins: 74 M
part 75 pins: 75 M
part 76 pins: 76 M
part 77 pins: 77 M
part 78 pins: 78 M

## M09-182
designator X?, comment <b>SUB-D</b>
OC_FARNELL: unknown; OC_NEWARK: unknown
footprint 182-009-MALE
pins: 1, 2, 3, 4, 5, 6, 7, 8, 9

## M09?S-182
designator X?, comment <b>SUB-D</b>
OC_FARNELL: unknown; OC_NEWARK: unknown
footprint 182-009-MALE
part A pins: 1 M
part B pins: 2 M
part C pins: 3 M
part D pins: 4 M
part E pins: 5 M
part F pins: 6 M
part G pins: 7 M
part H pins: 8 M
part I pins: 9 M

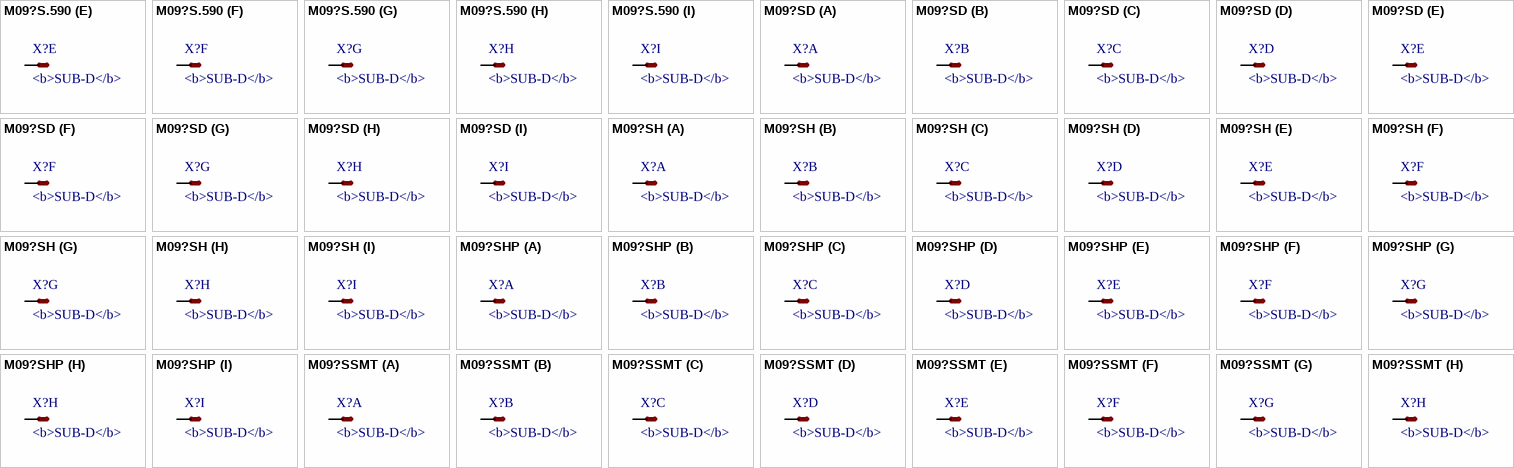
[diagram p37: symbols M09?S.590 to M09?SSMT]

## M09?S.590
designator X?, comment <b>SUB-D</b>
OC_FARNELL: unknown; OC_NEWARK: unknown
footprint 177-009-MALE
part A pins: 1 M
part B pins: 2 M
part C pins: 3 M
part D pins: 4 M
part E pins: 5 M
part F pins: 6 M
part G pins: 7 M
part H pins: 8 M
part I pins: 9 M

## M09?SD
designator X?, comment <b>SUB-D</b>
OC_FARNELL: unknown; OC_NEWARK: unknown
footprint M09D
part A pins: 1 M
part B pins: 2 M
part C pins: 3 M
part D pins: 4 M
part E pins: 5 M
part F pins: 6 M
part G pins: 7 M
part H pins: 8 M
part I pins: 9 M

## M09?SH
designator X?, comment <b>SUB-D</b>
OC_FARNELL: unknown; OC_NEWARK: unknown
footprint M09H
part A pins: 1 M
part B pins: 2 M
part C pins: 3 M
part D pins: 4 M
part E pins: 5 M
part F pins: 6 M
part G pins: 7 M
part H pins: 8 M
part I pins: 9 M

## M09?SHP
designator X?, comment <b>SUB-D</b>
OC_FARNELL: unknown; OC_NEWARK: unknown
footprint M09HP
part A pins: 1 M
part B pins: 2 M
part C pins: 3 M
part D pins: 4 M
part E pins: 5 M
part F pins: 6 M
part G pins: 7 M
part H pins: 8 M
part I pins: 9 M

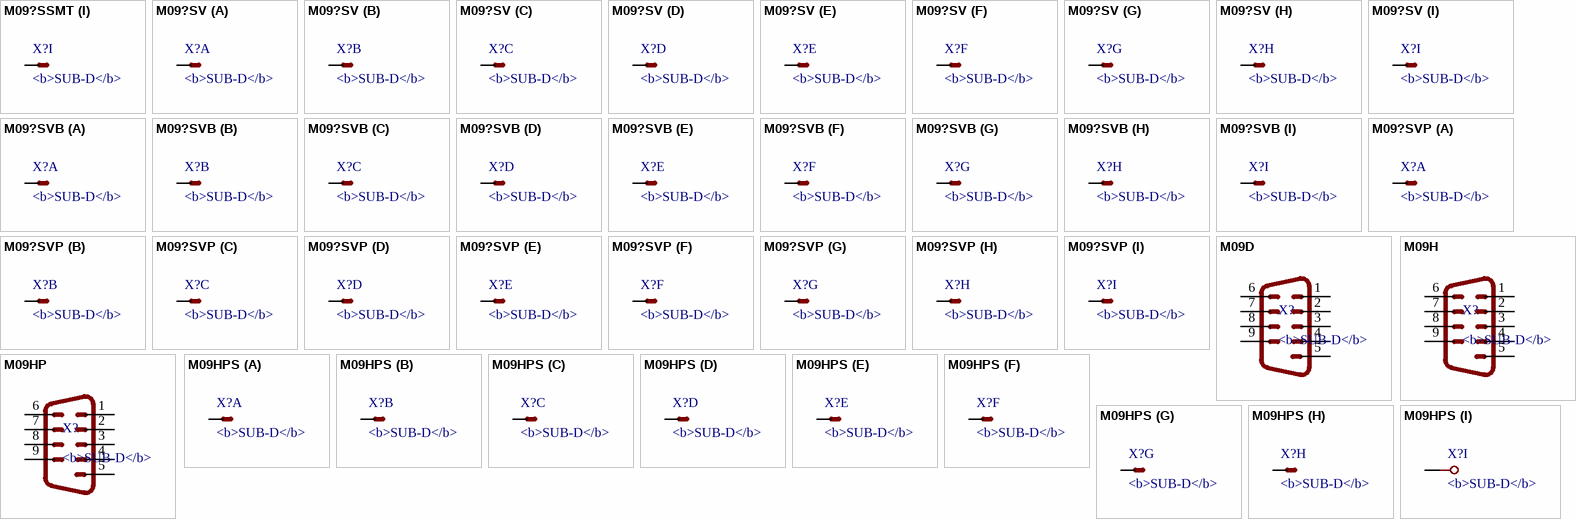
[diagram p38: symbols M09?SSMT to M09HPS]

## M09?SSMT
designator X?, comment <b>SUB-D</b>
footprint M09SMT
part A pins: 1 M
part B pins: 2 M
part C pins: 3 M
part D pins: 4 M
part E pins: 5 M
part F pins: 6 M
part G pins: 7 M
part H pins: 8 M
part I pins: 9 M

## M09?SV
designator X?, comment <b>SUB-D</b>
OC_FARNELL: unknown; OC_NEWARK: unknown
footprint M09V
part A pins: 1 M
part B pins: 2 M
part C pins: 3 M
part D pins: 4 M
part E pins: 5 M
part F pins: 6 M
part G pins: 7 M
part H pins: 8 M
part I pins: 9 M

## M09?SVB
designator X?, comment <b>SUB-D</b>
OC_FARNELL: unknown; OC_NEWARK: unknown
footprint M09VB
part A pins: 1 M
part B pins: 2 M
part C pins: 3 M
part D pins: 4 M
part E pins: 5 M
part F pins: 6 M
part G pins: 7 M
part H pins: 8 M
part I pins: 9 M

## M09?SVP
designator X?, comment <b>SUB-D</b>
OC_FARNELL: unknown; OC_NEWARK: unknown
footprint M09VP
part A pins: 1 M
part B pins: 2 M
part C pins: 3 M
part D pins: 4 M
part E pins: 5 M
part F pins: 6 M
part G pins: 7 M
part H pins: 8 M
part I pins: 9 M

## M09D
designator X?, comment <b>SUB-D</b>
OC_FARNELL: unknown; OC_NEWARK: unknown
footprint M09D
pins: 1, 2, 3, 4, 5, 6, 7, 8, 9

## M09H
designator X?, comment <b>SUB-D</b>
OC_FARNELL: unknown; OC_NEWARK: unknown
footprint M09H
pins: 1, 2, 3, 4, 5, 6, 7, 8, 9

## M09HP
designator X?, comment <b>SUB-D</b>
OC_FARNELL: unknown; OC_NEWARK: unknown
footprint M09HP
pins: 1, 2, 3, 4, 5, 6, 7, 8, 9

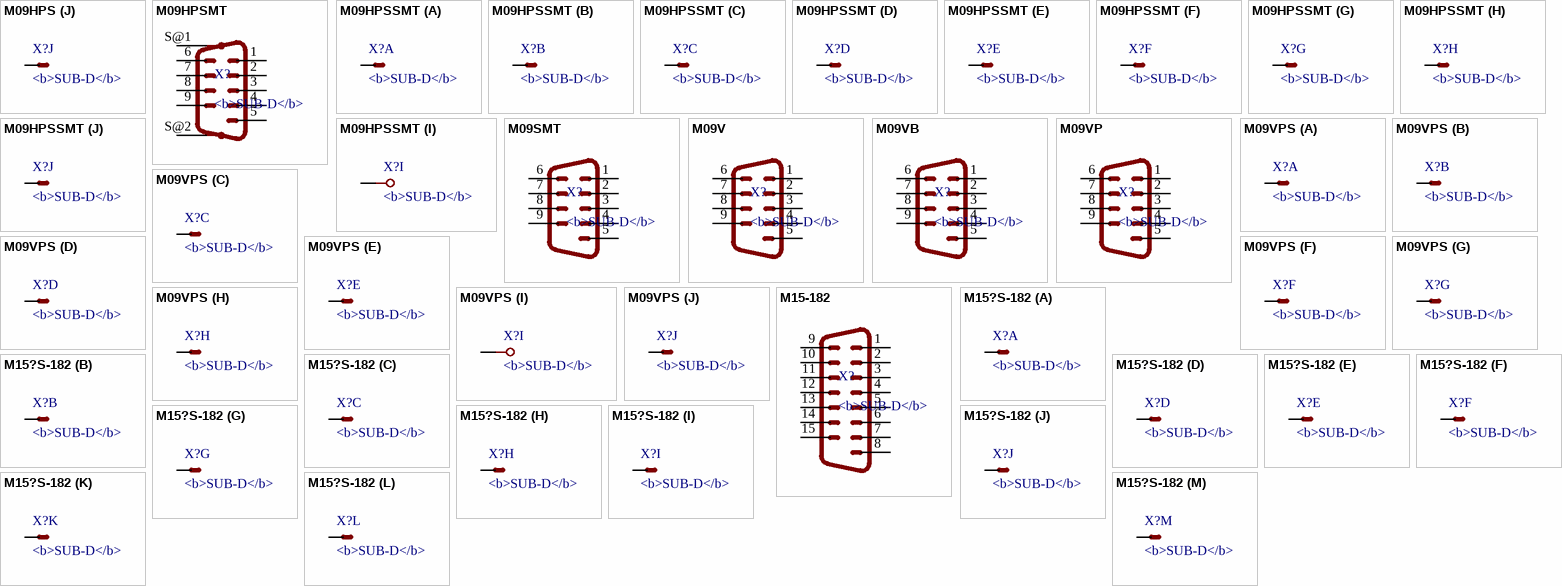
[diagram p39: symbols M09HPS to M15?S-182]

## M09HPS
designator X?, comment <b>SUB-D</b>
OC_FARNELL: unknown; OC_NEWARK: unknown
footprint M09HP
part A pins: 2 M
part B pins: 3 M
part C pins: 4 M
part D pins: 5 M
part E pins: 6 M
part F pins: 7 M
part G pins: 8 M
part H pins: 9 M
part I pins: G1, G2
part J pins: 1 M

## M09HPSMT
designator X?, comment <b>SUB-D</b>
footprint M09SMT
pins: 1, 2, 3, 4, 5, 6, 7, 8, 9, S@1 G1, S@2 G2

## M09HPSSMT
designator X?, comment <b>SUB-D</b>
footprint M09SMT
part A pins: 2 M
part B pins: 3 M
part C pins: 4 M
part D pins: 5 M
part E pins: 6 M
part F pins: 7 M
part G pins: 8 M
part H pins: 9 M
part I pins: S@1 G1, S@2 G2
part J pins: 1 M

## M09SMT
designator X?, comment <b>SUB-D</b>
footprint M09SMT
pins: 1, 2, 3, 4, 5, 6, 7, 8, 9

## M09V
designator X?, comment <b>SUB-D</b>
OC_FARNELL: unknown; OC_NEWARK: unknown
footprint M09V
pins: 1, 2, 3, 4, 5, 6, 7, 8, 9

## M09VB
designator X?, comment <b>SUB-D</b>
OC_FARNELL: unknown; OC_NEWARK: unknown
footprint M09VB
pins: 1, 2, 3, 4, 5, 6, 7, 8, 9

## M09VP
designator X?, comment <b>SUB-D</b>
OC_FARNELL: unknown; OC_NEWARK: unknown
footprint M09VP
pins: 1, 2, 3, 4, 5, 6, 7, 8, 9

## M09VPS
designator X?, comment <b>SUB-D</b>
OC_FARNELL: unknown; OC_NEWARK: unknown
footprint M09VP
part A pins: 2 M
part B pins: 3 M
part C pins: 4 M
part D pins: 5 M
part E pins: 6 M
part F pins: 7 M
part G pins: 8 M
part H pins: 9 M
part I pins: G1, G2
part J pins: 1 M

## M15-182
designator X?, comment <b>SUB-D</b>
OC_FARNELL: unknown; OC_NEWARK: unknown
footprint 182-015-MALE
pins: 1, 2, 3, 4, 5, 6, 7, 8, 9, 10, 11, 12, 13, 14, 15

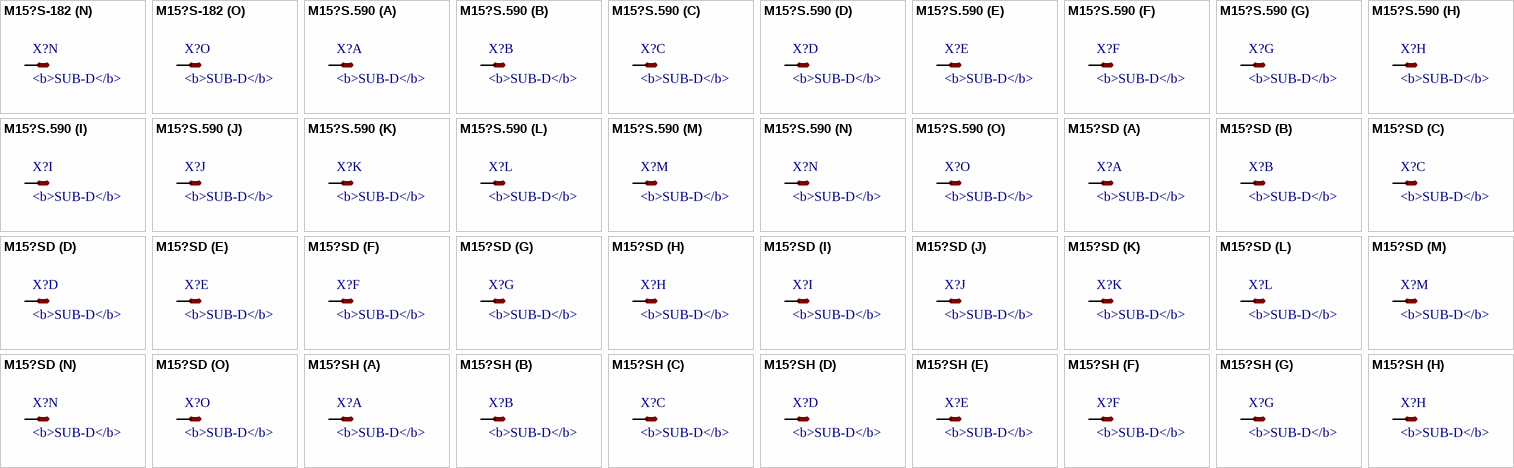
[diagram p40: symbols M15?S-182 to M15?SH]

## M15?S-182
designator X?, comment <b>SUB-D</b>
OC_FARNELL: unknown; OC_NEWARK: unknown
footprint 182-015-MALE
part A pins: 1 M
part B pins: 2 M
part C pins: 3 M
part D pins: 4 M
part E pins: 5 M
part F pins: 6 M
part G pins: 7 M
part H pins: 8 M
part I pins: 9 M
part J pins: 10 M
part K pins: 11 M
part L pins: 12 M
part M pins: 13 M
part N pins: 14 M
part O pins: 15 M

## M15?S.590
designator X?, comment <b>SUB-D</b>
OC_FARNELL: unknown; OC_NEWARK: unknown
footprint 177-015-MALE
part A pins: 1 M
part B pins: 2 M
part C pins: 3 M
part D pins: 4 M
part E pins: 5 M
part F pins: 6 M
part G pins: 7 M
part H pins: 8 M
part I pins: 9 M
part J pins: 10 M
part K pins: 11 M
part L pins: 12 M
part M pins: 13 M
part N pins: 14 M
part O pins: 15 M

## M15?SD
designator X?, comment <b>SUB-D</b>
OC_FARNELL: unknown; OC_NEWARK: unknown
footprint M15D
part A pins: 1 M
part B pins: 2 M
part C pins: 3 M
part D pins: 4 M
part E pins: 5 M
part F pins: 6 M
part G pins: 7 M
part H pins: 8 M
part I pins: 9 M
part J pins: 10 M
part K pins: 11 M
part L pins: 12 M
part M pins: 13 M
part N pins: 14 M
part O pins: 15 M

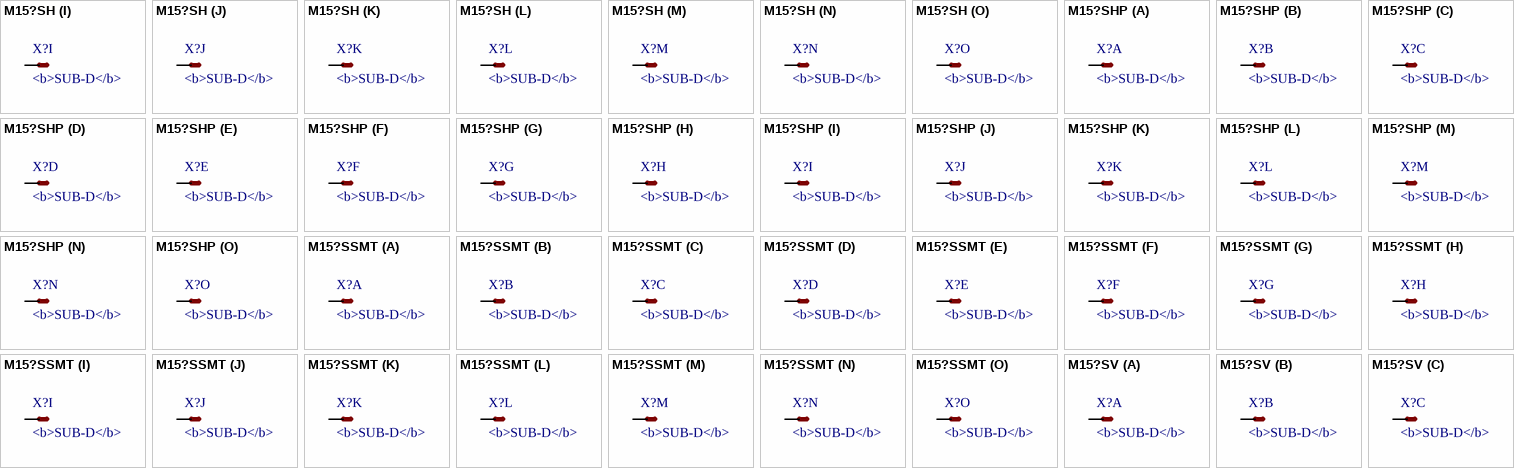
[diagram p41: symbols M15?SH to M15?SV]

## M15?SH
designator X?, comment <b>SUB-D</b>
OC_FARNELL: unknown; OC_NEWARK: unknown
footprint M15H
part A pins: 1 M
part B pins: 2 M
part C pins: 3 M
part D pins: 4 M
part E pins: 5 M
part F pins: 6 M
part G pins: 7 M
part H pins: 8 M
part I pins: 9 M
part J pins: 10 M
part K pins: 11 M
part L pins: 12 M
part M pins: 13 M
part N pins: 14 M
part O pins: 15 M

## M15?SHP
designator X?, comment <b>SUB-D</b>
OC_FARNELL: unknown; OC_NEWARK: unknown
footprint M15HP
part A pins: 1 M
part B pins: 2 M
part C pins: 3 M
part D pins: 4 M
part E pins: 5 M
part F pins: 6 M
part G pins: 7 M
part H pins: 8 M
part I pins: 9 M
part J pins: 10 M
part K pins: 11 M
part L pins: 12 M
part M pins: 13 M
part N pins: 14 M
part O pins: 15 M

## M15?SSMT
designator X?, comment <b>SUB-D</b>
footprint M15SMT
part A pins: 1 M
part B pins: 2 M
part C pins: 3 M
part D pins: 4 M
part E pins: 5 M
part F pins: 6 M
part G pins: 7 M
part H pins: 8 M
part I pins: 9 M
part J pins: 10 M
part K pins: 11 M
part L pins: 12 M
part M pins: 13 M
part N pins: 14 M
part O pins: 15 M

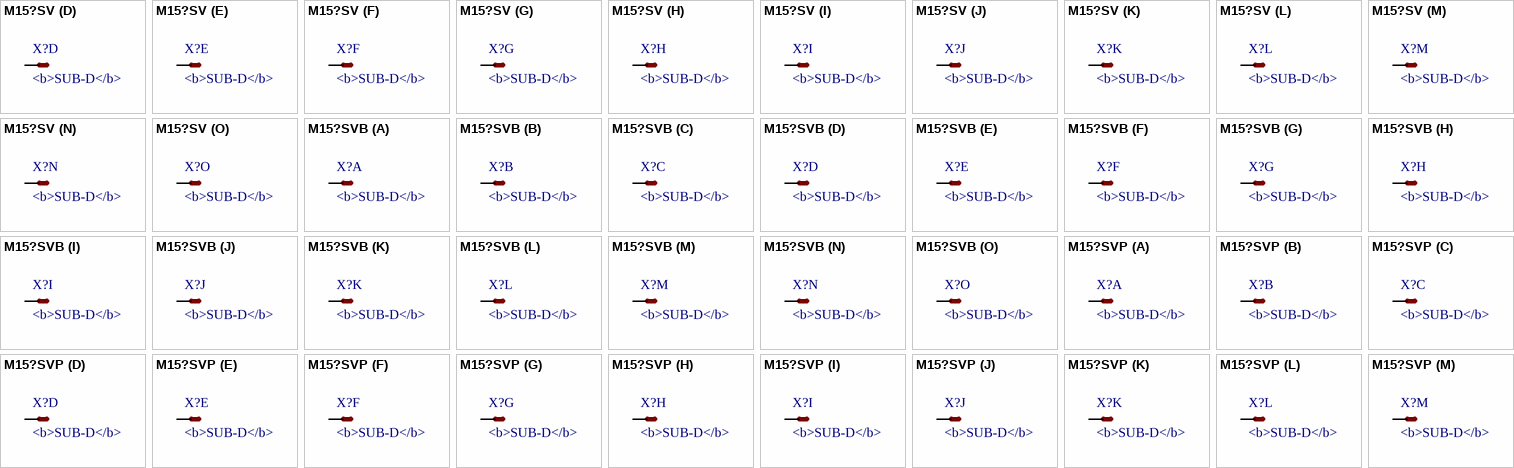
[diagram p42: symbols M15?SV to M15?SVP]

## M15?SV
designator X?, comment <b>SUB-D</b>
OC_FARNELL: unknown; OC_NEWARK: unknown
footprint M15V
part A pins: 1 M
part B pins: 2 M
part C pins: 3 M
part D pins: 4 M
part E pins: 5 M
part F pins: 6 M
part G pins: 7 M
part H pins: 8 M
part I pins: 9 M
part J pins: 10 M
part K pins: 11 M
part L pins: 12 M
part M pins: 13 M
part N pins: 14 M
part O pins: 15 M

## M15?SVB
designator X?, comment <b>SUB-D</b>
OC_FARNELL: unknown; OC_NEWARK: unknown
footprint M15VB
part A pins: 1 M
part B pins: 2 M
part C pins: 3 M
part D pins: 4 M
part E pins: 5 M
part F pins: 6 M
part G pins: 7 M
part H pins: 8 M
part I pins: 9 M
part J pins: 10 M
part K pins: 11 M
part L pins: 12 M
part M pins: 13 M
part N pins: 14 M
part O pins: 15 M

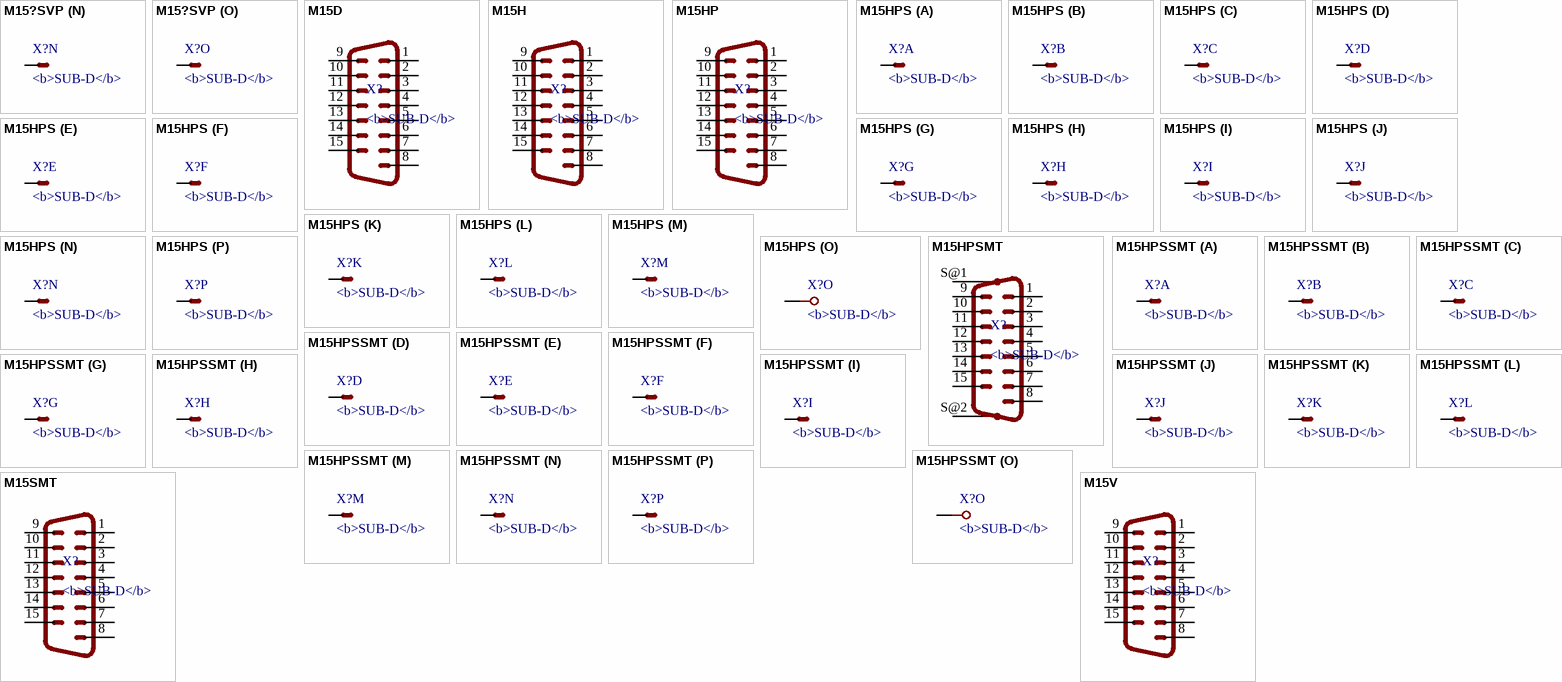
[diagram p43: symbols M15?SVP to M15V]

## M15?SVP
designator X?, comment <b>SUB-D</b>
OC_FARNELL: unknown; OC_NEWARK: unknown
footprint M15VP
part A pins: 1 M
part B pins: 2 M
part C pins: 3 M
part D pins: 4 M
part E pins: 5 M
part F pins: 6 M
part G pins: 7 M
part H pins: 8 M
part I pins: 9 M
part J pins: 10 M
part K pins: 11 M
part L pins: 12 M
part M pins: 13 M
part N pins: 14 M
part O pins: 15 M

## M15D
designator X?, comment <b>SUB-D</b>
OC_FARNELL: unknown; OC_NEWARK: unknown
footprint M15D
pins: 1, 2, 3, 4, 5, 6, 7, 8, 9, 10, 11, 12, 13, 14, 15

## M15H
designator X?, comment <b>SUB-D</b>
OC_FARNELL: unknown; OC_NEWARK: unknown
footprint M15H
pins: 1, 2, 3, 4, 5, 6, 7, 8, 9, 10, 11, 12, 13, 14, 15

## M15HP
designator X?, comment <b>SUB-D</b>
OC_FARNELL: unknown; OC_NEWARK: unknown
footprint M15HP
pins: 1, 2, 3, 4, 5, 6, 7, 8, 9, 10, 11, 12, 13, 14, 15

## M15HPS
designator X?, comment <b>SUB-D</b>
OC_FARNELL: unknown; OC_NEWARK: unknown
footprint M15HP
part A pins: 2 M
part B pins: 3 M
part C pins: 4 M
part D pins: 5 M
part E pins: 6 M
part F pins: 7 M
part G pins: 8 M
part H pins: 9 M
part I pins: 10 M
part J pins: 11 M
part K pins: 12 M
part L pins: 13 M
part M pins: 14 M
part N pins: 15 M
part O pins: G1, G2
part P pins: 1 M

## M15HPSMT
designator X?, comment <b>SUB-D</b>
footprint M15SMT
pins: 1, 2, 3, 4, 5, 6, 7, 8, 9, 10, 11, 12, 13, 14, 15, S@1 G1, S@2 G2

## M15HPSSMT
designator X?, comment <b>SUB-D</b>
footprint M15SMT
part A pins: 2 M
part B pins: 3 M
part C pins: 4 M
part D pins: 5 M
part E pins: 6 M
part F pins: 7 M
part G pins: 8 M
part H pins: 9 M
part I pins: 10 M
part J pins: 11 M
part K pins: 12 M
part L pins: 13 M
part M pins: 14 M
part N pins: 15 M
part O pins: S@1 G1, S@2 G2
part P pins: 1 M

## M15SMT
designator X?, comment <b>SUB-D</b>
footprint M15SMT
pins: 1, 2, 3, 4, 5, 6, 7, 8, 9, 10, 11, 12, 13, 14, 15

## M15V
designator X?, comment <b>SUB-D</b>
OC_FARNELL: unknown; OC_NEWARK: unknown
footprint M15V
pins: 1, 2, 3, 4, 5, 6, 7, 8, 9, 10, 11, 12, 13, 14, 15

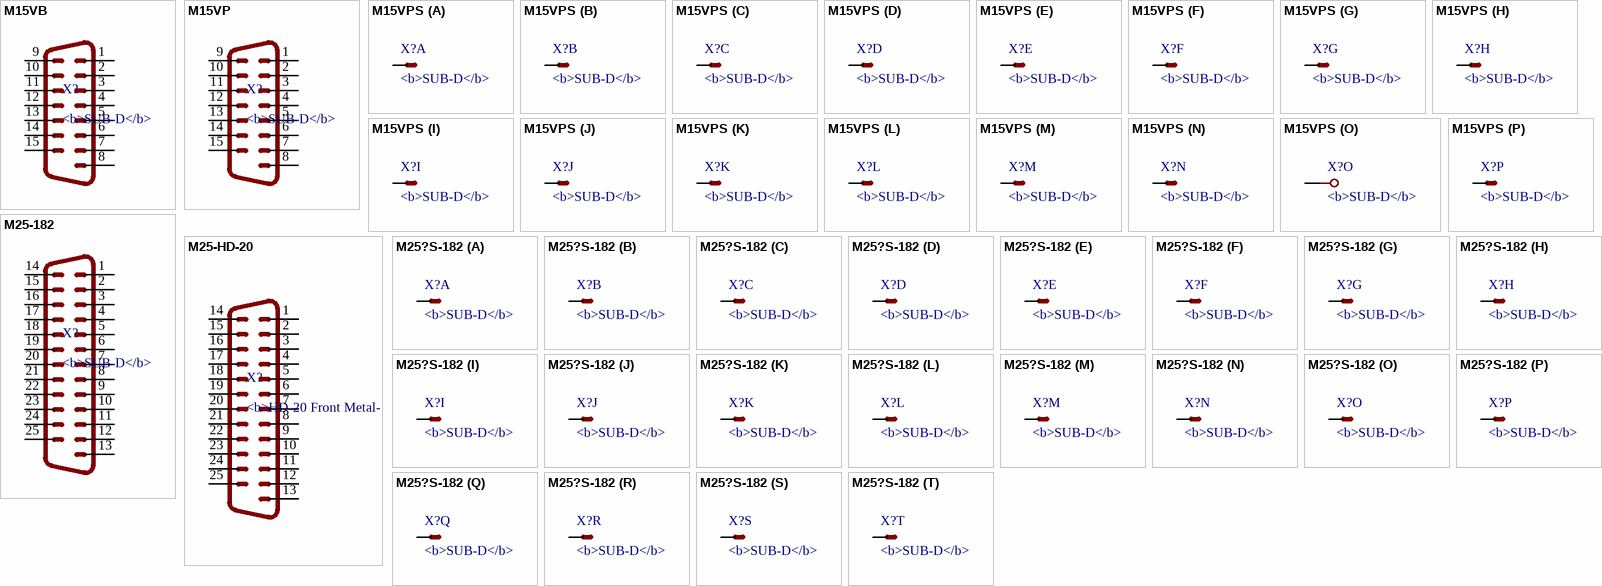
[diagram p44: symbols M15VB to M25?S-182]

## M15VB
designator X?, comment <b>SUB-D</b>
OC_FARNELL: unknown; OC_NEWARK: unknown
footprint M15VB
pins: 1, 2, 3, 4, 5, 6, 7, 8, 9, 10, 11, 12, 13, 14, 15

## M15VP
designator X?, comment <b>SUB-D</b>
OC_FARNELL: unknown; OC_NEWARK: unknown
footprint M15VP
pins: 1, 2, 3, 4, 5, 6, 7, 8, 9, 10, 11, 12, 13, 14, 15

## M15VPS
designator X?, comment <b>SUB-D</b>
OC_FARNELL: unknown; OC_NEWARK: unknown
footprint M15VP
part A pins: 2 M
part B pins: 3 M
part C pins: 4 M
part D pins: 5 M
part E pins: 6 M
part F pins: 7 M
part G pins: 8 M
part H pins: 9 M
part I pins: 10 M
part J pins: 11 M
part K pins: 12 M
part L pins: 13 M
part M pins: 14 M
part N pins: 15 M
part O pins: G1, G2
part P pins: 1 M

## M25-182
designator X?, comment <b>SUB-D</b>
OC_FARNELL: unknown; OC_NEWARK: unknown
footprint 182-025-MALE
pins: 1, 2, 3, 4, 5, 6, 7, 8, 9, 10, 11, 12, 13, 14, 15, 16, 17, 18, 19, 20, 21, 22, 23, 24, 25

## M25-HD-20
designator X?, comment <b>HD-20 Front Metal-Shell Right-Angle Posted Connectors 318 Mount</b> 5747846-6<p> / Source: http://catalog.tycoelectronics.com/TE/bin/TE.Connect?C=1&M=BYPN&TCPN=5747846-6&RQPN=5747846-6
OC_FARNELL: unknown; OC_NEWARK: unknown
footprint M25-HD-20
pins: 1, 2, 3, 4, 5, 6, 7, 8, 9, 10, 11, 12, 13, 14, 15, 16, 17, 18, 19, 20, 21, 22, 23, 24, 25

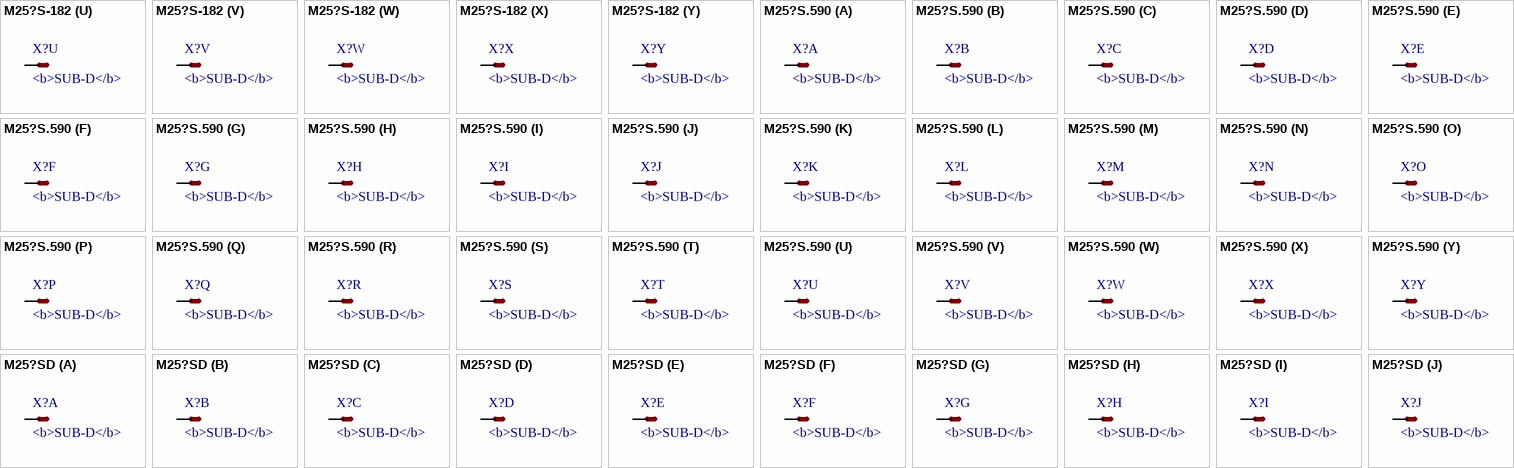
[diagram p45: symbols M25?S-182 to M25?SD]

## M25?S-182
designator X?, comment <b>SUB-D</b>
OC_FARNELL: unknown; OC_NEWARK: unknown
footprint 182-025-MALE
part A pins: 1 M
part B pins: 2 M
part C pins: 3 M
part D pins: 4 M
part E pins: 5 M
part F pins: 6 M
part G pins: 7 M
part H pins: 8 M
part I pins: 9 M
part J pins: 10 M
part K pins: 11 M
part L pins: 12 M
part M pins: 13 M
part N pins: 14 M
part O pins: 15 M
part P pins: 16 M
part Q pins: 17 M
part R pins: 18 M
part S pins: 19 M
part T pins: 20 M
part U pins: 21 M
part V pins: 22 M
part W pins: 23 M
part X pins: 24 M
part Y pins: 25 M

## M25?S.590
designator X?, comment <b>SUB-D</b>
OC_FARNELL: unknown; OC_NEWARK: unknown
footprint 177-025-MALE
part A pins: 1 M
part B pins: 2 M
part C pins: 3 M
part D pins: 4 M
part E pins: 5 M
part F pins: 6 M
part G pins: 7 M
part H pins: 8 M
part I pins: 9 M
part J pins: 10 M
part K pins: 11 M
part L pins: 12 M
part M pins: 13 M
part N pins: 14 M
part O pins: 15 M
part P pins: 16 M
part Q pins: 17 M
part R pins: 18 M
part S pins: 19 M
part T pins: 20 M
part U pins: 21 M
part V pins: 22 M
part W pins: 23 M
part X pins: 24 M
part Y pins: 25 M